# Altium schematic symbol library analogmushroom.SchLib: 107 symbols (part 1 of 2)
Pins are listed as number, name and electrical type; pins without a type are passive.

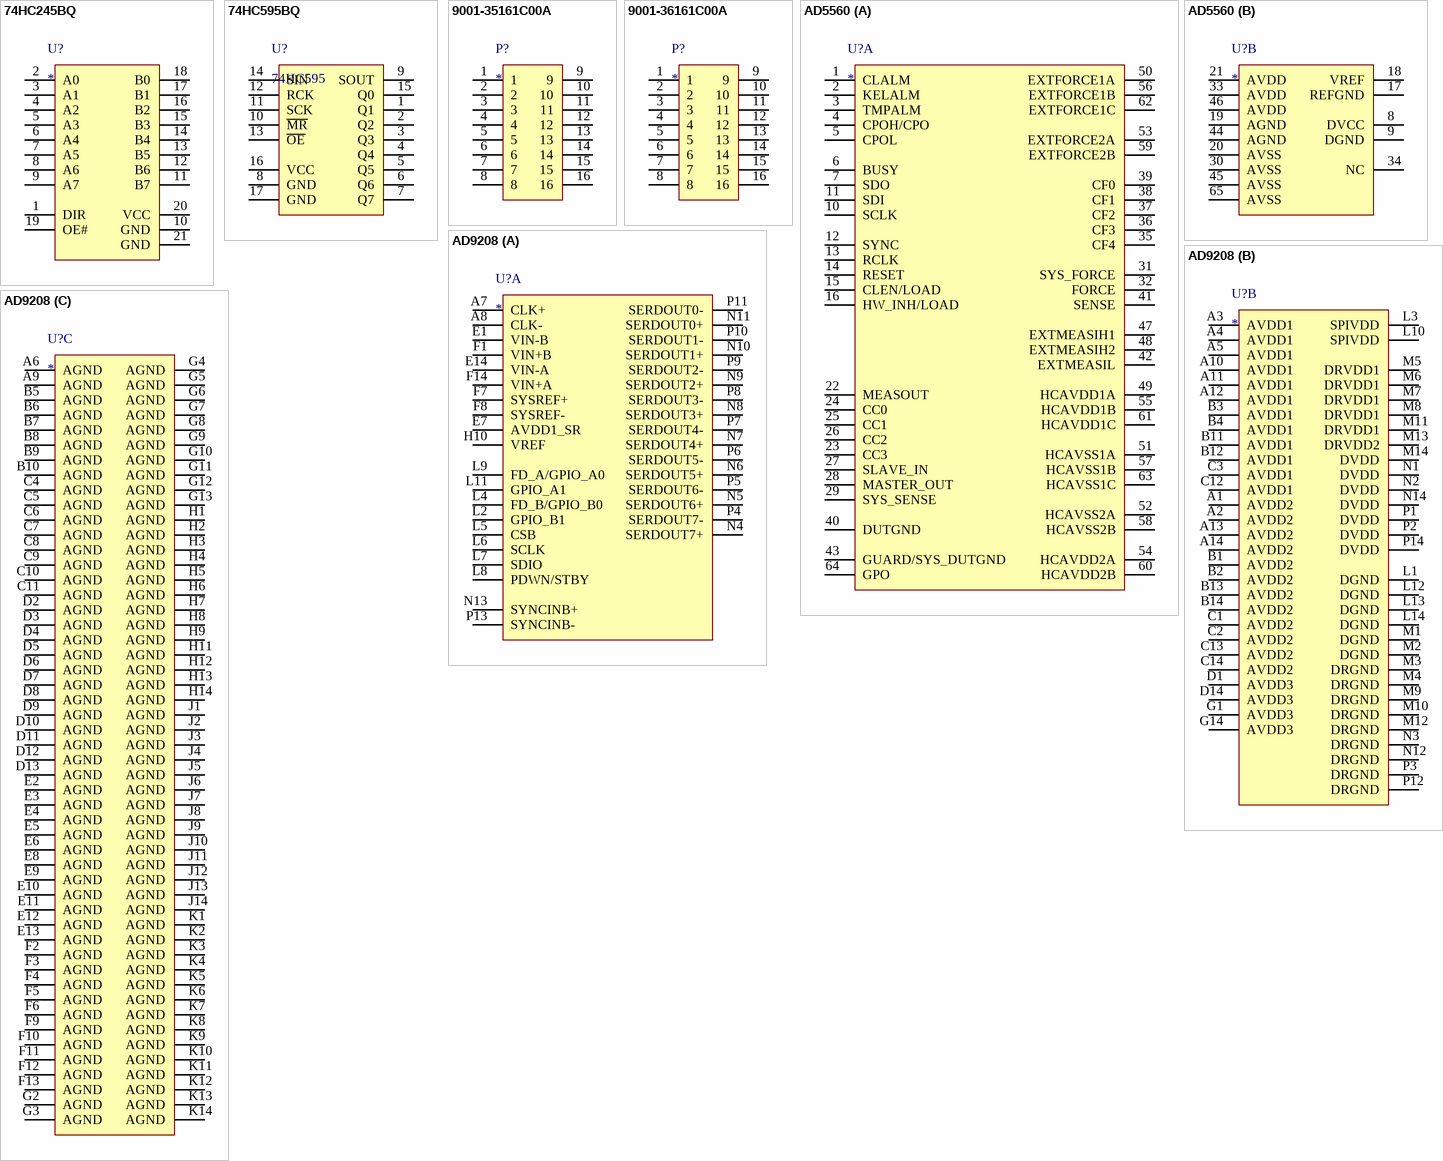
[diagram p0: symbols 74HC245BQ to AD9208]

## 74HC245BQ
designator U?
三态总线收发器
footprint QFN2.5x4.5-20 (QFN, 20-Leads, Body 2.50x4.50mm, Pitch 0.50mm, Thermal Pad 1.00x3.00mm, IPC Medium Density)
pins: 1 DIR, 2 A0, 3 A1, 4 A2, 5 A3, 6 A4, 7 A5, 8 A6, 9 A7, 10 GND, 11 B7, 12 B6, 13 B5, 14 B4, 15 B3, 16 B2, 17 B1, 18 B0, 19 OE#, 20 VCC, 21 GND

## 74HC595BQ
designator U?, comment 74HC595
8位移位寄存器; 学?: www.ooocke.com
footprint QFN2.5x3.5-16 (QFN, 16-Leads, Body 2.50x3.50mm, Pitch 0.50mm, Thermal Pad 1.00x2.00mm, IPC Medium Density)
pins: 1 Q1, 2 Q2, 3 Q3, 4 Q4, 5 Q5, 6 Q6, 7 Q7, 8 GND, 9 SOUT, 10 ~{MR}, 11 SCK, 12 RCK, 13 ~{OE}, 14 SIN, 15 Q0, 16 VCC, 17 GND

## 9001-35161C00A
designator P?
2x8pin 2.54mm 弯插公座
footprint 9001-35161C00A (Footprint not found)
pins: 1, 2, 3, 4, 5, 6, 7, 8, 9, 10, 11, 12, 13, 14, 15, 16

## 9001-36161C00A
designator P?
2x8pin 2.54mm 直插母座
footprint 9001-36161C00A (Footprint not found)
pins: 1, 2, 3, 4, 5, 6, 7, 8, 9, 10, 11, 12, 13, 14, 15, 16

## AD5560
designator U?
footprint TQFP64 10x10_L (64脚，体宽：10x10mm, 脚距：0.5mm)
footprint TQFP64 10x10_M (64脚，体宽：10x10mm, 脚距：0.5mm)
footprint TQFP64 10x10_N (64脚，体宽：10x10mm, 脚距：0.5mm)
part A pins: 1 CLALM, 2 KELALM, 3 TMPALM, 4 CPOH/CPO, 5 CPOL, 6 BUSY, 7 SDO, 10 SCLK, 11 SDI, 12 SYNC, 13 RCLK, 14 RESET, 15 CLEN/LOAD, 16 HW_INH/LOAD, 22 MEASOUT, 23 CC3, 24 CC0, 25 CC1, 26 CC2, 27 SLAVE_IN, 28 MASTER_OUT, 29 SYS_SENSE, 31 SYS_FORCE, 32 FORCE, 35 CF4, 36 CF3, 37 CF2, 38 CF1, 39 CF0, 40 DUTGND, 41 SENSE, 42 EXTMEASIL, 43 GUARD/SYS_DUTGND, 47 EXTMEASIH1, 48 EXTMEASIH2, 49 HCAVDD1A, 50 EXTFORCE1A, 51 HCAVSS1A, 52 HCAVSS2A, 53 EXTFORCE2A, 54 HCAVDD2A, 55 HCAVDD1B, 56 EXTFORCE1B, 57 HCAVSS1B, 58 HCAVSS2B, 59 EXTFORCE2B, 60 HCAVDD2B, 61 HCAVDD1C, 62 EXTFORCE1C, 63 HCAVSS1C, 64 GPO
part B pins: 8 DVCC, 9 DGND, 17 REFGND, 18 VREF, 19 AGND, 20 AVSS, 21 AVDD, 30 AVSS, 33 AVDD, 34 NC, 44 AGND, 45 AVSS, 46 AVDD, 65 AVSS

## AD9208
designator U?
14-Bit, 3 GSPS, JESD204B, / Dual Analog-to-Digital Converter
footprint BGA12X12-192 (BGA, 196-Leads, Body 12.00x12.00mmx1.53mm, Pitch 0.80mm)
part A pins: A7 CLK+, A8 CLK-, E1 VIN-B, E7 AVDD1_SR, E14 VIN-A, F1 VIN+B, F7 SYSREF+, F8 SYSREF-, F14 VIN+A, H10 VREF, L2 GPIO_B1, L4 FD_B/GPIO_B0, L5 CSB, L6 SCLK, L7 SDIO, L8 PDWN/STBY, L9 FD_A/GPIO_A0, L11 GPIO_A1, N4 SERDOUT7+, N5 SERDOUT6+, N6 SERDOUT5+, N7 SERDOUT4+, N8 SERDOUT3+, N9 SERDOUT2+, N10 SERDOUT1+, N11 SERDOUT0+, N13 SYNCINB+, P4 SERDOUT7-, P5 SERDOUT6-, P6 SERDOUT5-, P7 SERDOUT4-, P8 SERDOUT3-, P9 SERDOUT2-, P10 SERDOUT1-, P11 SERDOUT0-, P13 SYNCINB-
part B pins: A1 AVDD2, A2 AVDD2, A3 AVDD1, A4 AVDD1, A5 AVDD1, A10 AVDD1, A11 AVDD1, A12 AVDD1, A13 AVDD2, A14 AVDD2, B1 AVDD2, B2 AVDD2, B3 AVDD1, B4 AVDD1, B11 AVDD1, B12 AVDD1, B13 AVDD2, B14 AVDD2, C1 AVDD2, C2 AVDD2, C3 AVDD1, C12 AVDD1, C13 AVDD2, C14 AVDD2, D1 AVDD3, D14 AVDD3, G1 AVDD3, G14 AVDD3, L1 DGND, L3 SPIVDD, L10 SPIVDD, L12 DGND, L13 DGND, L14 DGND, M1 DGND, M2 DGND, M3 DRGND, M4 DRGND, M5 DRVDD1, M6 DRVDD1, M7 DRVDD1, M8 DRVDD1, M9 DRGND, M10 DRGND, M11 DRVDD1, M12 DRGND, M13 DRVDD2, M14 DVDD, N1 DVDD, N2 DVDD, N3 DRGND, N12 DRGND, N14 DVDD, P1 DVDD, P2 DVDD, P3 DRGND, P12 DRGND, P14 DVDD
part C pins: A6 AGND, A9 AGND, B5 AGND, B6 AGND, B7 AGND, B8 AGND, B9 AGND, B10 AGND, C4 AGND, C5 AGND, C6 AGND, C7 AGND, C8 AGND, C9 AGND, C10 AGND, C11 AGND, D2 AGND, D3 AGND, D4 AGND, D5 AGND, D6 AGND, D7 AGND, D8 AGND, D9 AGND, D10 AGND, D11 AGND, D12 AGND, D13 AGND, E2 AGND, E3 AGND, E4 AGND, E5 AGND, E6 AGND, E8 AGND, E9 AGND, E10 AGND, E11 AGND, E12 AGND, E13 AGND, F2 AGND, F3 AGND, F4 AGND, F5 AGND, F6 AGND, F9 AGND, F10 AGND, F11 AGND, F12 AGND, F13 AGND, G2 AGND, G3 AGND, G4 AGND, G5 AGND, G6 AGND, G7 AGND, G8 AGND, G9 AGND, G10 AGND, G11 AGND, G12 AGND, G13 AGND, H1 AGND, H2 AGND, H3 AGND, H4 AGND, H5 AGND, H6 AGND, H7 AGND, H8 AGND, H9 AGND, H11 AGND, H12 AGND, H13 AGND, H14 AGND, J1 AGND, J2 AGND, J3 AGND, J4 AGND, J5 AGND, J6 AGND, J7 AGND, J8 AGND, J9 AGND, J10 AGND, J11 AGND, J12 AGND, J13 AGND, J14 AGND, K1 AGND, K2 AGND, K3 AGND, K4 AGND, K5 AGND, K6 AGND, K7 AGND, K8 AGND, K9 AGND, K10 AGND, K11 AGND, K12 AGND, K13 AGND, K14 AGND

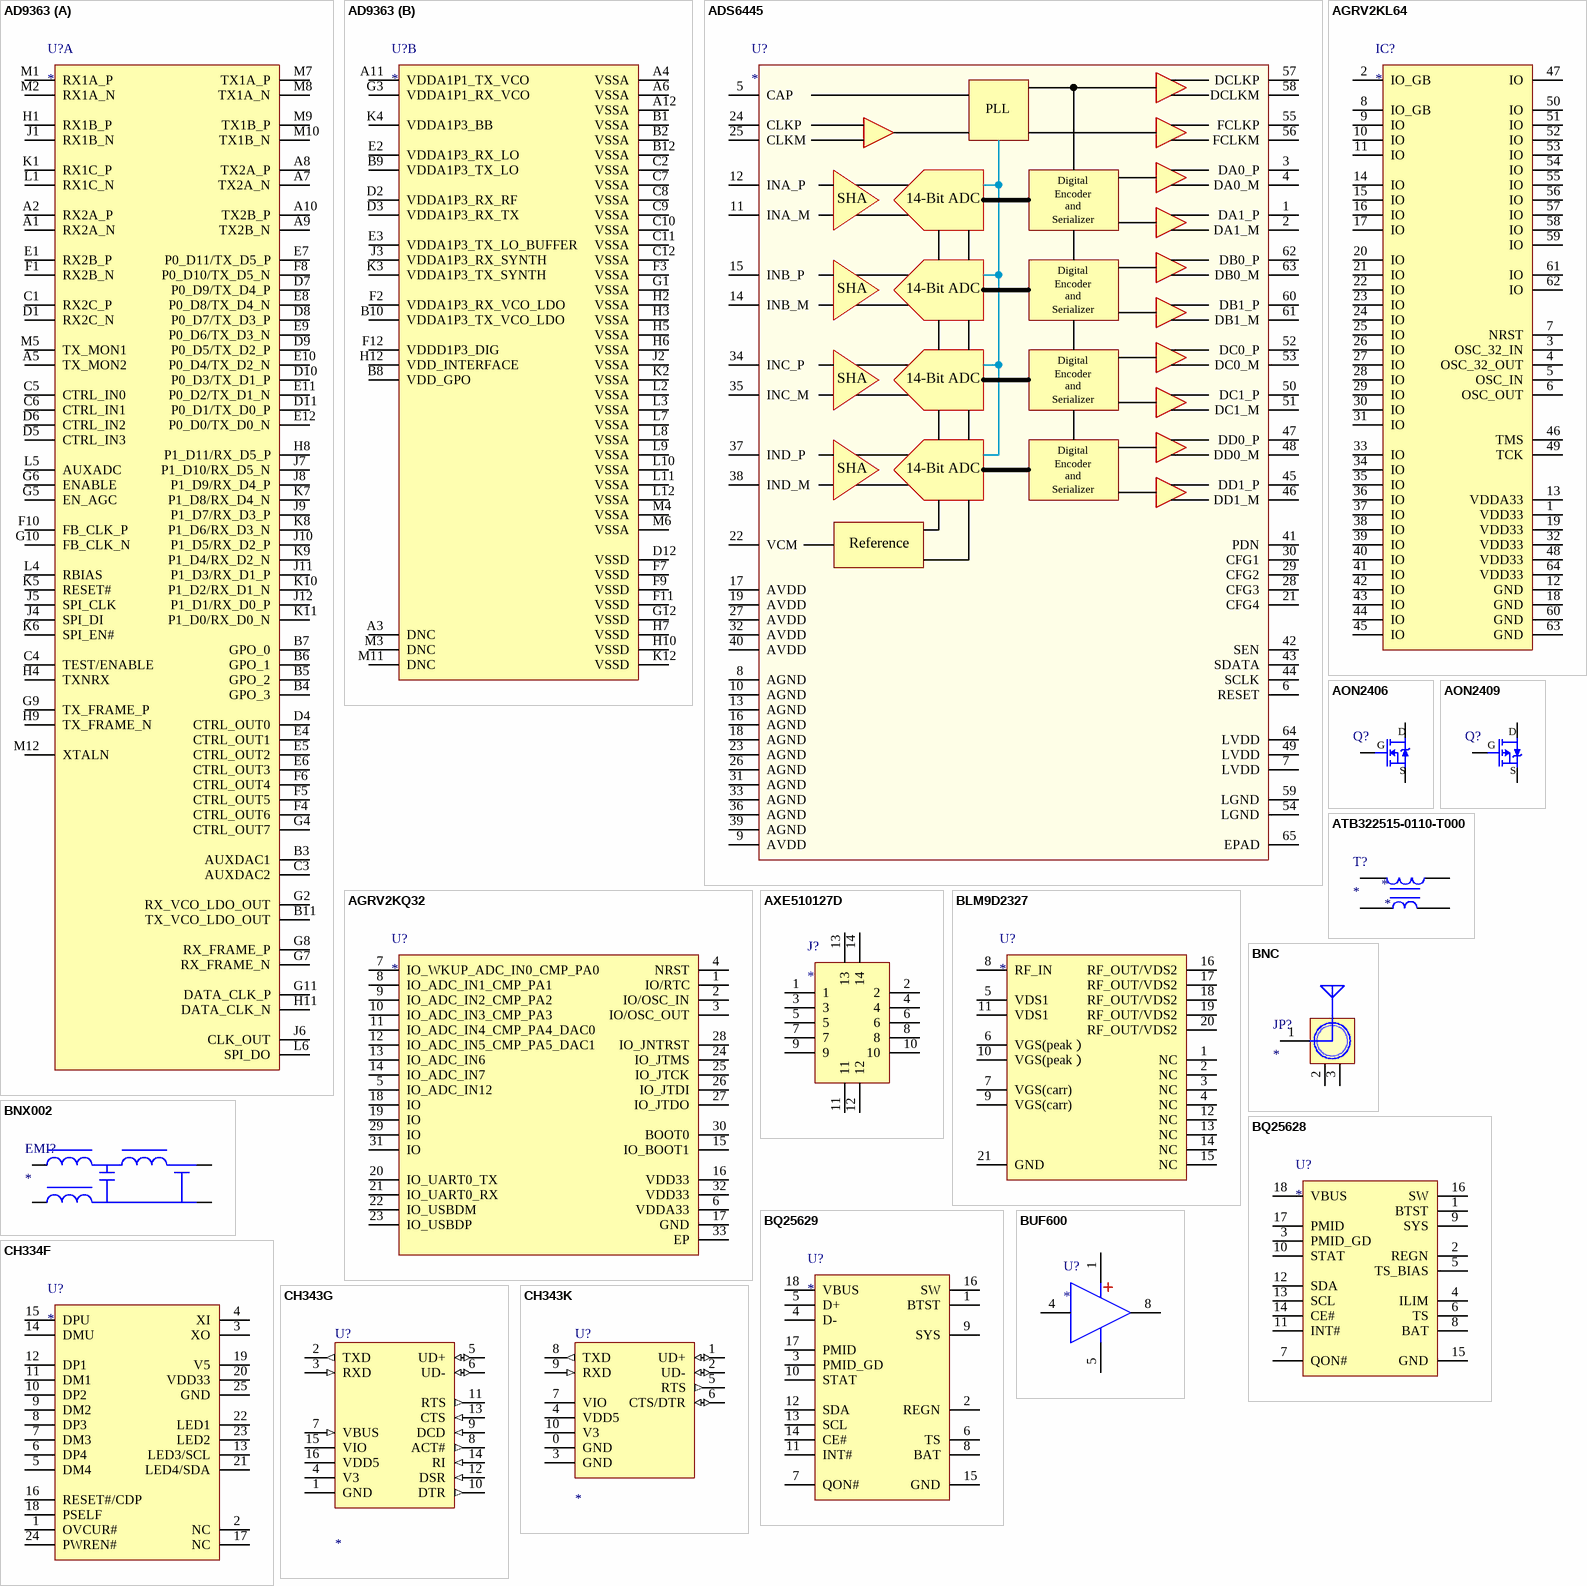
[diagram p1: symbols AD9363 to CH343K]

## AD9363
designator U?
footprint BGA10x10-144 (BGA, 144-Leads, Body 10.00x10.00mmx1.32mm, Pitch 0.80mm)
part A pins: A1 RX2A_N, A2 RX2A_P, A5 TX_MON2, A7 TX2A_N, A8 TX2A_P, A9 TX2B_N, A10 TX2B_P, B3 AUXDAC1, B4 GPO_3, B5 GPO_2, B6 GPO_1, B7 GPO_0, B11 TX_VCO_LDO_OUT, C1 RX2C_P, C3 AUXDAC2, C4 TEST/ENABLE, C5 CTRL_IN0, C6 CTRL_IN1, D1 RX2C_N, D4 CTRL_OUT0, D5 CTRL_IN3, D6 CTRL_IN2, D7 P0_D9/TX_D4_P, D8 P0_D7/TX_D3_P, D9 P0_D5/TX_D2_P, D10 P0_D3/TX_D1_P, D11 P0_D1/TX_D0_P, E1 RX2B_P, E4 CTRL_OUT1, E5 CTRL_OUT2, E6 CTRL_OUT3, E7 P0_D11/TX_D5_P, E8 P0_D8/TX_D4_N, E9 P0_D6/TX_D3_N, E10 P0_D4/TX_D2_N, E11 P0_D2/TX_D1_N, E12 P0_D0/TX_D0_N, F1 RX2B_N, F4 CTRL_OUT6, F5 CTRL_OUT5, F6 CTRL_OUT4, F8 P0_D10/TX_D5_N, F10 FB_CLK_P, G2 RX_VCO_LDO_OUT, G4 CTRL_OUT7, G5 EN_AGC, G6 ENABLE, G7 RX_FRAME_N, G8 RX_FRAME_P, G9 TX_FRAME_P, G10 FB_CLK_N, G11 DATA_CLK_P, H1 RX1B_P, H4 TXNRX, H8 P1_D11/RX_D5_P, H9 TX_FRAME_N, H11 DATA_CLK_N, J1 RX1B_N, J4 SPI_DI, J5 SPI_CLK, J6 CLK_OUT, J7 P1_D10/RX_D5_N, J8 P1_D9/RX_D4_P, J9 P1_D7/RX_D3_P, J10 P1_D5/RX_D2_P, J11 P1_D3/RX_D1_P, J12 P1_D1/RX_D0_P, K1 RX1C_P, K5 RESET#, K6 SPI_EN#, K7 P1_D8/RX_D4_N, K8 P1_D6/RX_D3_N, K9 P1_D4/RX_D2_N, K10 P1_D2/RX_D1_N, K11 P1_D0/RX_D0_N, L1 RX1C_N, L4 RBIAS, L5 AUXADC, L6 SPI_DO, M1 RX1A_P, M2 RX1A_N, M5 TX_MON1, M7 TX1A_P, M8 TX1A_N, M9 TX1B_P, M10 TX1B_N, M12 XTALN
part B pins: A3 DNC, A4 VSSA, A6 VSSA, A11 VDDA1P1_TX_VCO, A12 VSSA, B1 VSSA, B2 VSSA, B8 VDD_GPO, B9 VDDA1P3_TX_LO, B10 VDDA1P3_TX_VCO_LDO, B12 VSSA, C2 VSSA, C7 VSSA, C8 VSSA, C9 VSSA, C10 VSSA, C11 VSSA, C12 VSSA, D2 VDDA1P3_RX_RF, D3 VDDA1P3_RX_TX, D12 VSSD, E2 VDDA1P3_RX_LO, E3 VDDA1P3_TX_LO_BUFFER, F2 VDDA1P3_RX_VCO_LDO, F3 VSSA, F7 VSSD, F9 VSSD, F11 VSSD, F12 VDDD1P3_DIG, G1 VSSA, G3 VDDA1P1_RX_VCO, G12 VSSD, H2 VSSA, H3 VSSA, H5 VSSA, H6 VSSA, H7 VSSD, H10 VSSD, H12 VDD_INTERFACE, J2 VSSA, J3 VDDA1P3_RX_SYNTH, K2 VSSA, K3 VDDA1P3_TX_SYNTH, K4 VDDA1P3_BB, K12 VSSD, L2 VSSA, L3 VSSA, L7 VSSA, L8 VSSA, L9 VSSA, L10 VSSA, L11 VSSA, L12 VSSA, M3 DNC, M4 VSSA, M6 VSSA, M11 DNC

## ADS6445
designator U?
footprint QFN9x9-64 (QFN, 64-Leads, Body 9.00x9.00mm, Pitch 0.50mm, Thermal Pad 7.25x7.25mm, IPC Medium Density)
pins: 1 DA1_P, 2 DA1_M, 3 DA0_P, 4 DA0_M, 5 CAP, 6 RESET, 7 LVDD, 8 AGND, 9 AVDD, 10 AGND, 11 INA_M, 12 INA_P, 13 AGND, 14 INB_M, 15 INB_P, 16 AGND, 17 AVDD, 18 AGND, 19 AVDD, 21 CFG4, 22 VCM, 23 AGND, 24 CLKP, 25 CLKM, 26 AGND, 27 AVDD, 28 CFG3, 29 CFG2, 30 CFG1, 31 AGND, 32 AVDD, 33 AGND, 34 INC_P, 35 INC_M, 36 AGND, 37 IND_P, 38 IND_M, 39 AGND, 40 AVDD, 41 PDN, 42 SEN, 43 SDATA, 44 SCLK, 45 DD1_P, 46 DD1_M, 47 DD0_P, 48 DD0_M, 49 LVDD, 50 DC1_P, 51 DC1_M, 52 DC0_P, 53 DC0_M, 54 LGND, 55 FCLKP, 56 FCLKM, 57 DCLKP, 58 DCLKM, 59 LGND, 60 DB1_P, 61 DB1_M, 62 DB0_P, 63 DB0_M, 64 LVDD, 65 EPAD
text: PLL; Digital; Encoder; SHA; 14-Bit ADC; and; Serializer; Reference

## AGRV2KL64
designator IC?
footprint LQFP64 10x10_L (64脚，体宽10x10mm，脚距0.5mm)
footprint LQFP64 10x10_M (64脚，体宽10x10mm，脚距0.5mm)
footprint LQFP64 10x10_N (64脚，体宽10x10mm，脚距0.5mm)
pins: 1 VDD33, 2 IO_GB, 3 OSC_32_IN, 4 OSC_32_OUT, 5 OSC_IN, 6 OSC_OUT, 7 NRST, 8 IO_GB, 9 IO, 10 IO, 11 IO, 12 GND, 13 VDDA33, 14 IO, 15 IO, 16 IO, 17 IO, 18 GND, 19 VDD33, 20 IO, 21 IO, 22 IO, 23 IO, 24 IO, 25 IO, 26 IO, 27 IO, 28 IO, 29 IO, 30 IO, 31 IO, 32 VDD33, 33 IO, 34 IO, 35 IO, 36 IO, 37 IO, 38 IO, 39 IO, 40 IO, 41 IO, 42 IO, 43 IO, 44 IO, 45 IO, 46 TMS, 47 IO, 48 VDD33, 49 TCK, 50 IO, 51 IO, 52 IO, 53 IO, 54 IO, 55 IO, 56 IO, 57 IO, 58 IO, 59 IO, 60 GND, 61 IO, 62 IO, 63 GND, 64 VDD33

## AGRV2KQ32
designator U?
footprint QFN4x4-32 (Footprint not found)
pins: 1 IO/RTC, 2 IO/OSC_IN, 3 IO/OSC_OUT, 4 NRST, 5 IO_ADC_IN12, 6 VDDA33, 7 IO_WKUP_ADC_IN0_CMP_PA0, 8 IO_ADC_IN1_CMP_PA1, 9 IO_ADC_IN2_CMP_PA2, 10 IO_ADC_IN3_CMP_PA3, 11 IO_ADC_IN4_CMP_PA4_DAC0, 12 IO_ADC_IN5_CMP_PA5_DAC1, 13 IO_ADC_IN6, 14 IO_ADC_IN7, 15 IO_BOOT1, 16 VDD33, 17 GND, 18 IO, 19 IO, 20 IO_UART0_TX, 21 IO_UART0_RX, 22 IO_USBDM, 23 IO_USBDP, 24 IO_JTMS, 25 IO_JTCK, 26 IO_JTDI, 27 IO_JTDO, 28 IO_JNTRST, 29 IO, 30 BOOT0, 31 IO, 32 VDD33, 33 EP

## AON2406
designator Q?  (value not drawn)
footprint DFN2x2B-8 (Footprint not found)
pins: 1 D, 2 D, 3 G, 4 S, 5 D, 6 D, 7 D, 8 S

## AON2409
designator Q?  (value not drawn)
footprint DFN2x2B-8 (Footprint not found)
pins: 1 D, 2 D, 3 G, 4 S, 5 D, 6 D, 7 D, 8 S

## ATB322515-0110-T000
designator T?
Step-up transformers / Wound SMD
footprint ATB322515-0110-T000 (Footprint not found)
pins: 1, 2, 3, 4

## AXE510127D
designator J?
footprint AXE510127D (Footprint not found)
pins: 1, 2, 3, 4, 5, 6, 7, 8, 9, 10, 11, 12, 13, 14

## BLM9D2327
designator U?
LDMOS 2-stage integrated Doherty MMIC
footprint QFN8x8-20 (Footprint not found)
pins: 1 NC, 2 NC, 3 NC, 4 NC, 5 VDS1, 6 VGS(peak）, 7 VGS(carr), 8 RF_IN, 9 VGS(carr), 10 VGS(peak）, 11 VDS1, 12 NC, 13 NC, 14 NC, 15 NC, 16 RF_OUT/VDS2, 17 RF_OUT/VDS2, 18 RF_OUT/VDS2, 19 RF_OUT/VDS2, 20 RF_OUT/VDS2, 21 GND

## BNC
designator JP?
footprint BNC-KWE
pins: 1 ANT, 2 GND, 3 GND

## BNX002
designator EMI?
EMI滤波器
footprint BNX-002 (Footprint not found)
pins: 1 B, 2 CB, 3 PSG, 4 CG

## BQ25628
designator U?
具有升压模式和 ADC 的 I²C 控制型 18V 最大输入、2A 单节电池充电器
footprint QFN2.5x3-18 (Footprint not found)
pins: 1 BTST, 2 REGN, 3 PMID_GD, 4 ILIM, 5 TS_BIAS, 6 TS, 7 QON#, 8 BAT, 9 SYS, 10 STAT, 11 INT#, 12 SDA, 13 SCL, 14 CE#, 15 GND, 16 SW, 17 PMID, 18 VBUS

## BQ25629
designator U?
具有升压模式和 ADC 的 I²C 控制型 18V 最大输入、2A 单节电池充电器
footprint QFN2.5x3-18 (Footprint not found)
pins: 1 BTST, 2 REGN, 3 PMID_GD, 4 D-, 5 D+, 6 TS, 7 QON#, 8 BAT, 9 SYS, 10 STAT, 11 INT#, 12 SDA, 13 SCL, 14 CE#, 15 GND, 16 SW, 17 PMID, 18 VBUS

## BUF600
designator U?
footprint SOP8_L (4*5*1.8mm（长宽高）)
footprint SOP8_M (5*6*1.8mm（长宽高）)
footprint SOP8_N (5*6*1.8mm（长宽高）)
pins: 1 V+ (power), 4 IN-, 5 V- (power), 8 OUT

## CH334F
designator U?
4 端口 USB 2.0 HUB 控制器芯片
footprint QFN24 4X4_L (24脚，长x宽x高：4x4x1mm，脚距：0.5mm)
footprint QFN24 4X4_M (24脚，长x宽x高：4x4x1mm，脚距：0.5mm)
footprint QFN24 4X4_N (24脚，长x宽x高：4x4x1mm，脚距：0.5mm)
pins: 1 OVCUR#, 2 NC, 3 XO, 4 XI, 5 DM4, 6 DP4, 7 DM3, 8 DP3, 9 DM2, 10 DP2, 11 DM1, 12 DP1, 13 LED3/SCL, 14 DMU, 15 DPU, 16 RESET#/CDP, 17 NC, 18 PSELF, 19 V5, 20 VDD33, 21 LED4/SDA, 22 LED1, 23 LED2, 24 PWREN#, 25 GND

## CH343G
designator U?
USB to high speed enhanced TTL Serial / UART
footprint SOP16_L (10.3*6.2*1.8mm（长宽高）)
footprint DIP16-300 (19.3*7.6*3.8(长宽高）)
footprint SOP16_M (10.3*6.2*1.8mm（长宽高）)
footprint SOP16_N (10.3*6.2*1.8mm（长宽高）)
pins: 1 GND (power), 2 TXD (out), 3 RXD (in), 4 V3 (power), 5 UD+ (io), 6 UD- (io), 7 VBUS (in), 8 ACT# (out), 9 DCD (in), 10 DTR (out), 11 RTS (out), 12 DSR (in), 13 CTS (in), 14 RI (in), 15 VIO (power), 16 VDD5 (power)

## CH343K
designator U?
USB to high speed enhanced TTL Serial / UART
footprint ESSOP-10 (Footprint not found)
pins: 0 GND (power), 1 UD+ (io), 2 UD- (io), 3 GND (power), 4 VDD5 (power), 5 RTS (out), 6 CTS/DTR (io), 7 VIO (power), 8 TXD (out), 9 RXD (in), 10 V3 (power)

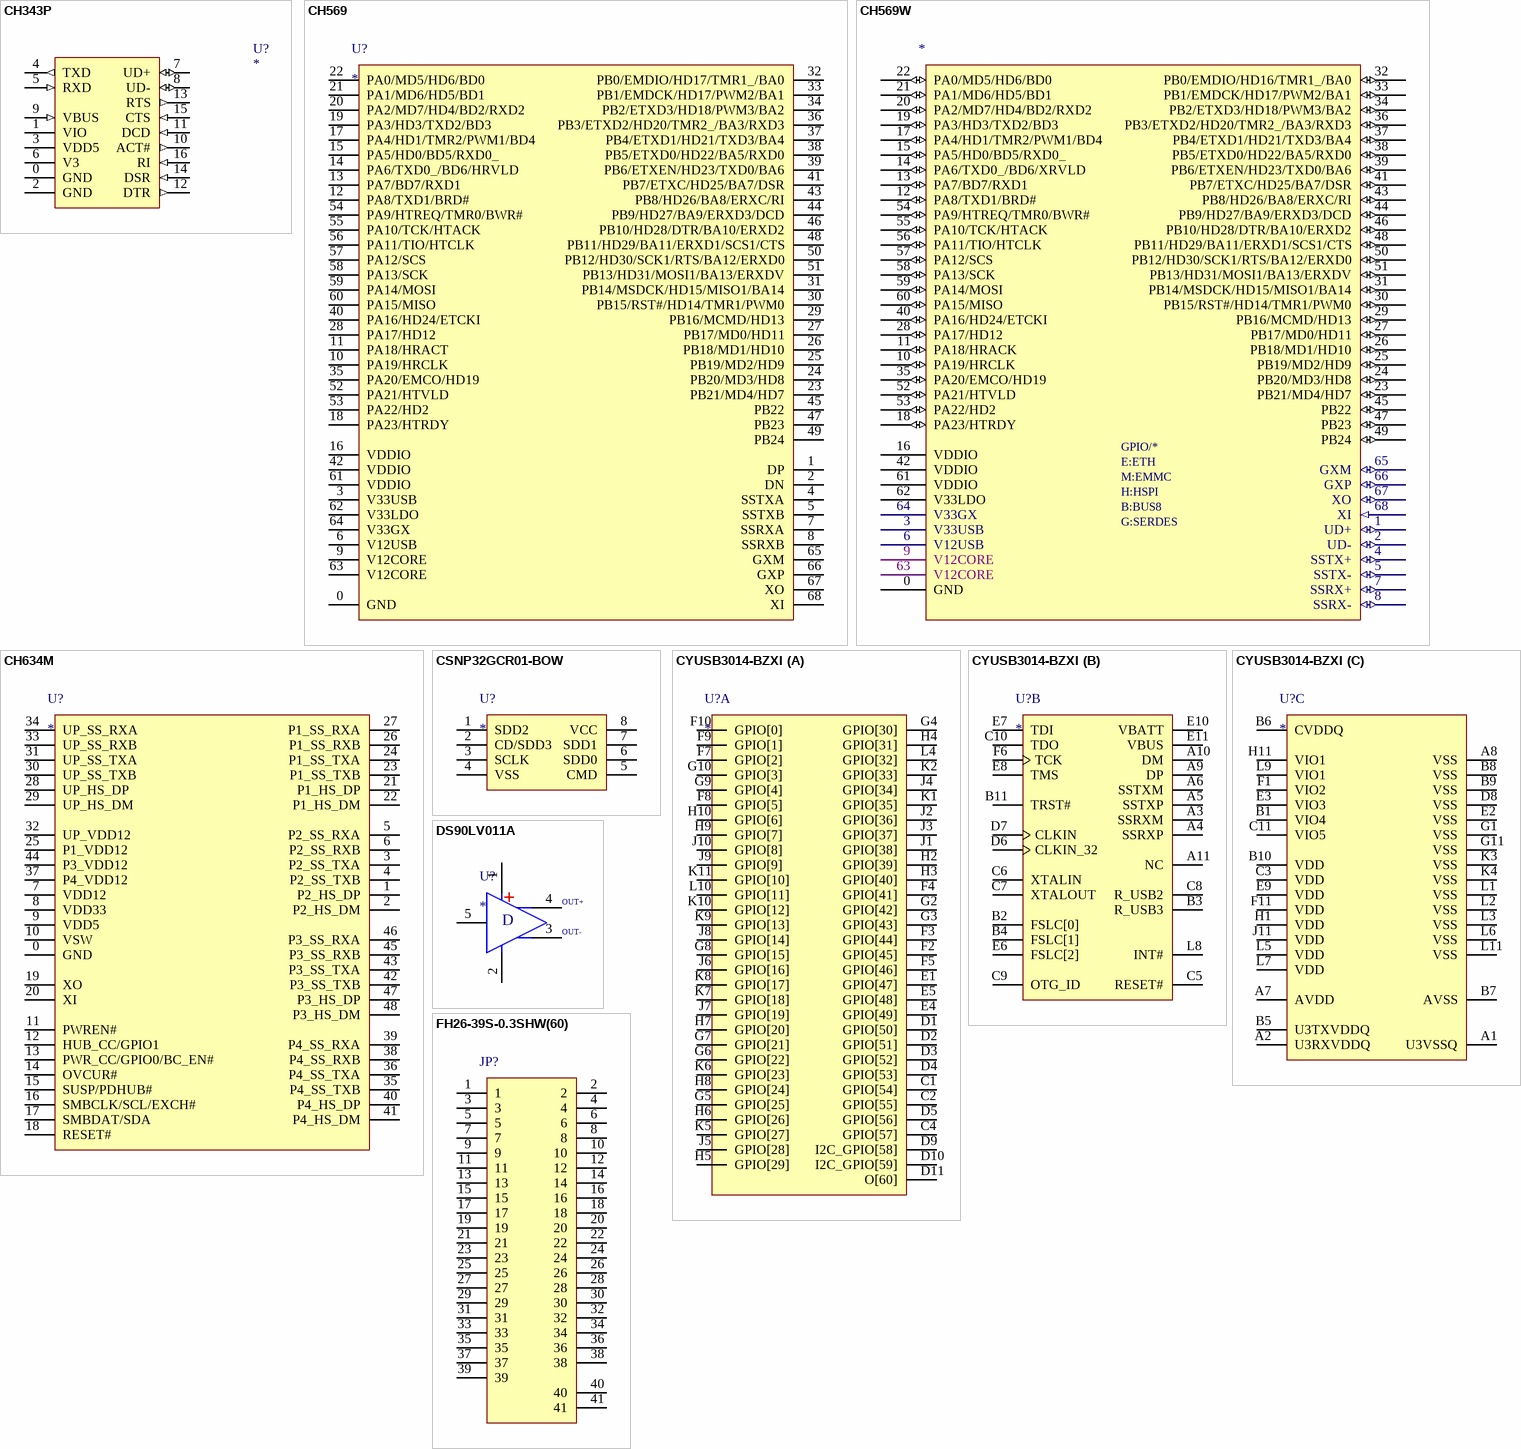
[diagram p2: symbols CH343P to FH26-39S-0.3SHW(60)]

## CH343P
designator U?
USB to high speed enhanced TTL Serial / UART
footprint QFN3x3-16 (QFN, 16-Leads, Body 3.00x3.00mm, Pitch 0.50mm, Thermal Pad 1.70x1.70mm, IPC Medium Density)
pins: 0 GND (power), 1 VIO (power), 2 GND (power), 3 VDD5 (power), 4 TXD (out), 5 RXD (in), 6 V3 (power), 7 UD+ (io), 8 UD- (io), 9 VBUS (in), 10 ACT# (out), 11 DCD (in), 12 DTR (out), 13 RTS (out), 14 DSR (in), 15 CTS (in), 16 RI (in)

## CH569
designator U?
footprint QFN68 8x8_L (68脚，长x宽x高：8x8x0.85mm，脚距：0.4mm)
footprint QFN68 8x8_M (68脚，长x宽x高：8x8x0.85mm，脚距：0.4mm)
footprint QFN68 8x8_N (68脚，长x宽x高：8x8x0.85mm，脚距：0.4mm)
pins: 0 GND, 1 DP, 2 DN, 3 V33USB, 4 SSTXA, 5 SSTXB, 6 V12USB, 7 SSRXA, 8 SSRXB, 9 V12CORE, 10 PA19/HRCLK, 11 PA18/HRACT, 12 PA8/TXD1/BRD#, 13 PA7/BD7/RXD1, 14 PA6/TXD0_/BD6/HRVLD, 15 PA5/HD0/BD5/RXD0_, 16 VDDIO, 17 PA4/HD1/TMR2/PWM1/BD4, 18 PA23/HTRDY, 19 PA3/HD3/TXD2/BD3, 20 PA2/MD7/HD4/BD2/RXD2, 21 PA1/MD6/HD5/BD1, 22 PA0/MD5/HD6/BD0, 23 PB21/MD4/HD7, 24 PB20/MD3/HD8, 25 PB19/MD2/HD9, 26 PB18/MD1/HD10, 27 PB17/MD0/HD11, 28 PA17/HD12, 29 PB16/MCMD/HD13, 30 PB15/RST#/HD14/TMR1/PWM0, 31 PB14/MSDCK/HD15/MISO1/BA14, 32 PB0/EMDIO/HD17/TMR1_/BA0, 33 PB1/EMDCK/HD17/PWM2/BA1, 34 PB2/ETXD3/HD18/PWM3/BA2, 35 PA20/EMCO/HD19, 36 PB3/ETXD2/HD20/TMR2_/BA3/RXD3, 37 PB4/ETXD1/HD21/TXD3/BA4, 38 PB5/ETXD0/HD22/BA5/RXD0, 39 PB6/ETXEN/HD23/TXD0/BA6, 40 PA16/HD24/ETCKI, 41 PB7/ETXC/HD25/BA7/DSR, 42 VDDIO, 43 PB8/HD26/BA8/ERXC/RI, 44 PB9/HD27/BA9/ERXD3/DCD, 45 PB22, 46 PB10/HD28/DTR/BA10/ERXD2, 47 PB23, 48 PB11/HD29/BA11/ERXD1/SCS1/CTS, 49 PB24, 50 PB12/HD30/SCK1/RTS/BA12/ERXD0, 51 PB13/HD31/MOSI1/BA13/ERXDV, 52 PA21/HTVLD, 53 PA22/HD2, 54 PA9/HTREQ/TMR0/BWR#, 55 PA10/TCK/HTACK, 56 PA11/TIO/HTCLK, 57 PA12/SCS, 58 PA13/SCK, 59 PA14/MOSI, 60 PA15/MISO, 61 VDDIO, 62 V33LDO, 63 V12CORE, 64 V33GX, 65 GXM, 66 GXP, 67 XO, 68 XI

## CH569W
designator *  (value not drawn)
footprint QFN8x8-68
pins: 0 GND (power), 1 UD+ (io), 2 UD- (io), 3 V33USB (power), 4 SSTX+ (io), 5 SSTX- (io), 6 V12USB (power), 7 SSRX+ (io), 8 SSRX- (io), 9 V12CORE (power), 10 PA19/HRCLK (io), 11 PA18/HRACK (io), 12 PA8/TXD1/BRD# (io), 13 PA7/BD7/RXD1 (io), 14 PA6/TXD0_/BD6/XRVLD (io), 15 PA5/HD0/BD5/RXD0_ (io), 16 VDDIO (power), 17 PA4/HD1/TMR2/PWM1/BD4 (io), 18 PA23/HTRDY (io), 19 PA3/HD3/TXD2/BD3 (io), 20 PA2/MD7/HD4/BD2/RXD2 (io), 21 PA1/MD6/HD5/BD1 (io), 22 PA0/MD5/HD6/BD0 (io), 23 PB21/MD4/HD7 (io), 24 PB20/MD3/HD8 (io), 25 PB19/MD2/HD9 (io), 26 PB18/MD1/HD10 (io), 27 PB17/MD0/HD11 (io), 28 PA17/HD12 (io), 29 PB16/MCMD/HD13 (io), 30 PB15/RST#/HD14/TMR1/PWM0 (io), 31 PB14/MSDCK/HD15/MISO1/BA14 (io), 32 PB0/EMDIO/HD16/TMR1_/BA0 (io), 33 PB1/EMDCK/HD17/PWM2/BA1 (io), 34 PB2/ETXD3/HD18/PWM3/BA2 (io), 35 PA20/EMCO/HD19 (io), 36 PB3/ETXD2/HD20/TMR2_/BA3/RXD3 (io), 37 PB4/ETXD1/HD21/TXD3/BA4 (io), 38 PB5/ETXD0/HD22/BA5/RXD0 (io), 39 PB6/ETXEN/HD23/TXD0/BA6 (io), 40 PA16/HD24/ETCKI (io), 41 PB7/ETXC/HD25/BA7/DSR (io), 42 VDDIO (power), 43 PB8/HD26/BA8/ERXC/RI (io), 44 PB9/HD27/BA9/ERXD3/DCD (io), 45 PB22 (io), 46 PB10/HD28/DTR/BA10/ERXD2 (io), 47 PB23 (io), 48 PB11/HD29/BA11/ERXD1/SCS1/CTS (io), 49 PB24 (io), 50 PB12/HD30/SCK1/RTS/BA12/ERXD0 (io), 51 PB13/HD31/MOSI1/BA13/ERXDV (io), 52 PA21/HTVLD (io), 53 PA22/HD2 (io), 54 PA9/HTREQ/TMR0/BWR# (io), 55 PA10/TCK/HTACK (io), 56 PA11/TIO/HTCLK (io), 57 PA12/SCS (io), 58 PA13/SCK (io), 59 PA14/MOSI (io), 60 PA15/MISO (io), 61 VDDIO (power), 62 V33LDO (power), 63 V12CORE (power), 64 V33GX (power), 65 GXM (io), 66 GXP (io), 67 XO (io), 68 XI (in)
text: GPIO/*; E:ETH; M:EMMC; H:HSPI; B:BUS8; G:SERDES

## CH634M
designator U?
4 ports USB 3.0 SS hub
footprint QFN5x5-48 (QFN, 48-Leads, Body 5.00x5.00mm, Pitch 0.35mm, Thermal Pad 3.70x3.70mm, IPC High Density)
pins: 0 GND, 1 P2_HS_DP, 2 P2_HS_DM, 3 P2_SS_TXA, 4 P2_SS_TXB, 5 P2_SS_RXA, 6 P2_SS_RXB, 7 VDD12, 8 VDD33, 9 VDD5, 10 VSW, 11 PWREN#, 12 HUB_CC/GPIO1, 13 PWR_CC/GPIO0/BC_EN#, 14 OVCUR#, 15 SUSP/PDHUB#, 16 SMBCLK/SCL/EXCH#, 17 SMBDAT/SDA, 18 RESET#, 19 XO, 20 XI, 21 P1_HS_DP, 22 P1_HS_DM, 23 P1_SS_TXB, 24 P1_SS_TXA, 25 P1_VDD12, 26 P1_SS_RXB, 27 P1_SS_RXA, 28 UP_HS_DP, 29 UP_HS_DM, 30 UP_SS_TXB, 31 UP_SS_TXA, 32 UP_VDD12, 33 UP_SS_RXB, 34 UP_SS_RXA, 35 P4_SS_TXB, 36 P4_SS_TXA, 37 P4_VDD12, 38 P4_SS_RXB, 39 P4_SS_RXA, 40 P4_HS_DP, 41 P4_HS_DM, 42 P3_SS_TXB, 43 P3_SS_TXA, 44 P3_VDD12, 45 P3_SS_RXB, 46 P3_SS_RXA, 47 P3_HS_DP, 48 P3_HS_DM

## CSNP32GCR01-BOW
designator U?
存储容量:1Gbit;时钟频率(fc):50MHz;工作电压:2.7V~3.6V;
footprint LGA6x8-8
pins: 1 SDD2, 2 CD/SDD3, 3 SCLK, 4 VSS, 5 CMD, 6 SDD0, 7 SDD1, 8 VCC

## CYUSB3014-BZXI
designator U?
footprint BGA10X10-121
part A pins: C1 GPIO[54], C2 GPIO[55], C4 GPIO[57], D1 GPIO[50], D2 GPIO[51], D3 GPIO[52], D4 GPIO[53], D5 GPIO[56], D9 I2C_GPIO[58], D10 I2C_GPIO[59], D11 O[60], E1 GPIO[47], E4 GPIO[49], E5 GPIO[48], F2 GPIO[45], F3 GPIO[44], F4 GPIO[41], F5 GPIO[46], F7 GPIO[2], F8 GPIO[5], F9 GPIO[1], F10 GPIO[0], G2 GPIO[42], G3 GPIO[43], G4 GPIO[30], G5 GPIO[25], G6 GPIO[22], G7 GPIO[21], G8 GPIO[15], G9 GPIO[4], G10 GPIO[3], H2 GPIO[39], H3 GPIO[40], H4 GPIO[31], H5 GPIO[29], H6 GPIO[26], H7 GPIO[20], H8 GPIO[24], H9 GPIO[7], H10 GPIO[6], J1 GPIO[38], J2 GPIO[36], J3 GPIO[37], J4 GPIO[34], J5 GPIO[28], J6 GPIO[16], J7 GPIO[19], J8 GPIO[14], J9 GPIO[9], J10 GPIO[8], K1 GPIO[35], K2 GPIO[33], K5 GPIO[27], K6 GPIO[23], K7 GPIO[18], K8 GPIO[17], K9 GPIO[13], K10 GPIO[12], K11 GPIO[10], L4 GPIO[32], L10 GPIO[11]
part B pins: A3 SSRXM, A4 SSRXP, A5 SSTXP, A6 SSTXM, A9 DP, A10 DM, A11 NC, B2 FSLC[0], B3 R_USB3, B4 FSLC[1], B11 TRST#, C5 RESET#, C6 XTALIN, C7 XTALOUT, C8 R_USB2, C9 OTG_ID, C10 TDO, D6 CLKIN_32, D7 CLKIN, E6 FSLC[2], E7 TDI, E8 TMS, E10 VBATT, E11 VBUS, F6 TCK, L8 INT#
part C pins: A1 U3VSSQ, A2 U3RXVDDQ, A7 AVDD, A8 VSS, B1 VIO4, B5 U3TXVDDQ, B6 CVDDQ, B7 AVSS, B8 VSS, B9 VSS, B10 VDD, C3 VDD, C11 VIO5, D8 VSS, E2 VSS, E3 VIO3, E9 VDD, F1 VIO2, F11 VDD, G1 VSS, G11 VSS, H1 VDD, H11 VIO1, J11 VDD, K3 VSS, K4 VSS, L1 VSS, L2 VSS, L3 VSS, L5 VDD, L6 VSS, L7 VDD, L9 VIO1, L11 VSS

## DS90LV011A
designator U?
3V LVDS Single High Speed Differential Driver
footprint SOT23-5L (3x1.6x1.1mm(长宽高))
footprint SOT23-5M (3x1.6x1.1mm(长宽高))
footprint SOT23-5N (3x1.6x1.1mm(长宽高))
pins: 1 V+ (power), 2 V- (power), 3 OUT-, 4 OUT+, 5 IN-
text: D

## FH26-39S-0.3SHW(60)
designator JP?  (value not drawn)
footprint FH26-39S-0.3SHW(60)
pins: 1, 2, 3, 4, 5, 6, 7, 8, 9, 10, 11, 12, 13, 14, 15, 16, 17, 18, 19, 20, 21, 22, 23, 24, 25, 26, 27, 28, 29, 30, 31, 32, 33, 34, 35, 36, 37, 38, 39, 40, 41

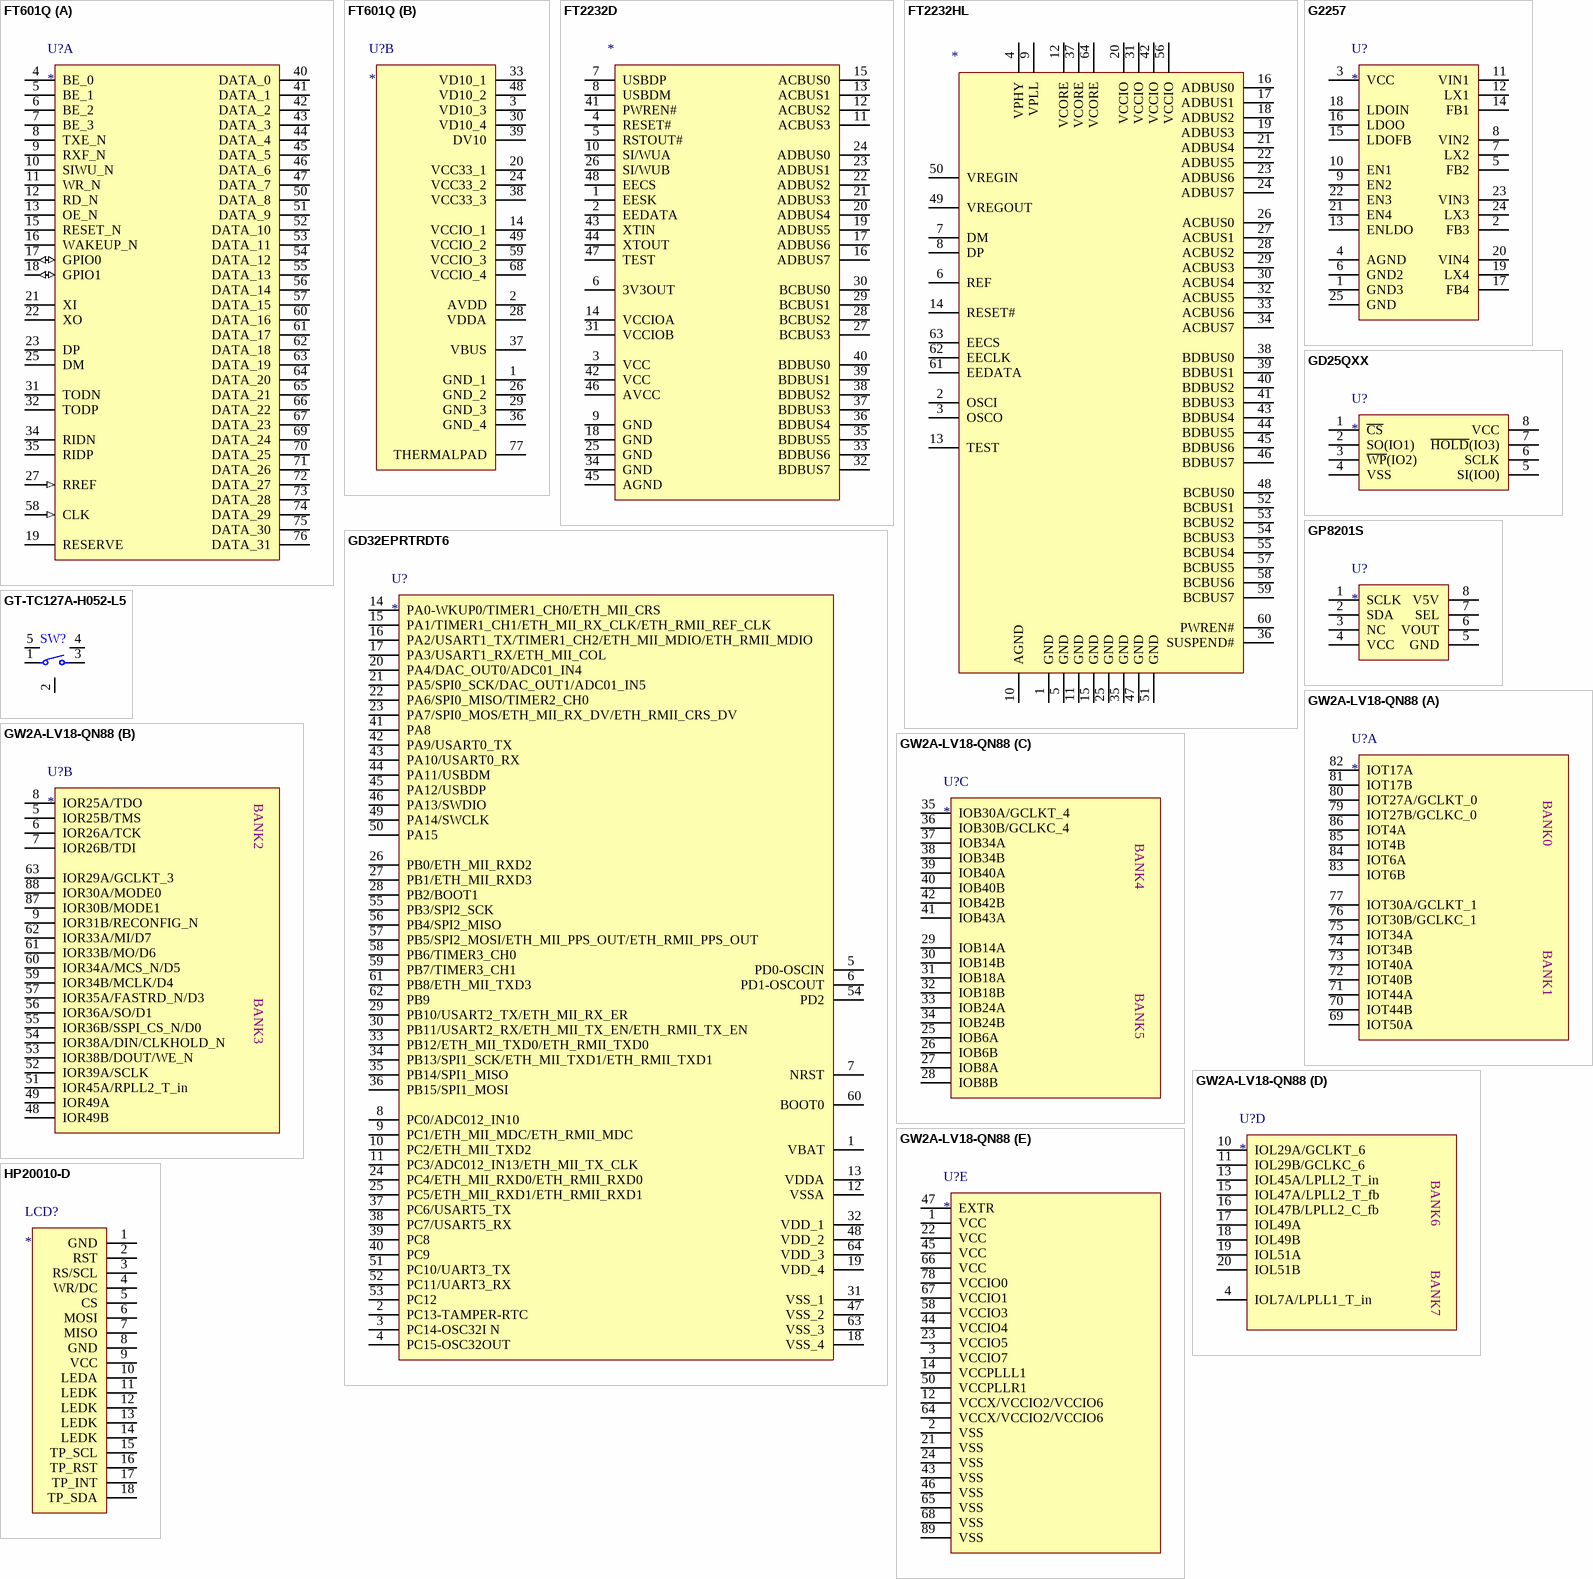
[diagram p3: symbols FT601Q to HP20010-D]

## FT601Q
designator U?
footprint QFN9X9-76 (Footprint not found)
part A pins: 4 BE_0, 5 BE_1, 6 BE_2, 7 BE_3, 8 TXE_N, 9 RXF_N, 10 SIWU_N, 11 WR_N, 12 RD_N, 13 OE_N, 15 RESET_N, 16 WAKEUP_N, 17 GPIO0 (io), 18 GPIO1 (io), 19 RESERVE, 21 XI, 22 XO, 23 DP, 25 DM, 27 RREF (in), 31 TODN, 32 TODP, 34 RIDN, 35 RIDP, 40 DATA_0, 41 DATA_1, 42 DATA_2, 43 DATA_3, 44 DATA_4, 45 DATA_5, 46 DATA_6, 47 DATA_7, 50 DATA_8, 51 DATA_9, 52 DATA_10, 53 DATA_11, 54 DATA_12, 55 DATA_13, 56 DATA_14, 57 DATA_15, 58 CLK (in), 60 DATA_16, 61 DATA_17, 62 DATA_18, 63 DATA_19, 64 DATA_20, 65 DATA_21, 66 DATA_22, 67 DATA_23, 69 DATA_24, 70 DATA_25, 71 DATA_26, 72 DATA_27, 73 DATA_28, 74 DATA_29, 75 DATA_30, 76 DATA_31
part B pins: 1 GND_1 (power), 2 AVDD (power), 3 VD10_3, 14 VCCIO_1 (power), 20 VCC33_1 (power), 24 VCC33_2 (power), 26 GND_2 (power), 28 VDDA (power), 29 GND_3 (power), 30 VD10_4, 33 VD10_1, 36 GND_4 (power), 37 VBUS, 38 VCC33_3 (power), 39 DV10, 48 VD10_2, 49 VCCIO_2 (power), 59 VCCIO_3 (power), 68 VCCIO_4 (power), 77 THERMALPAD

## FT2232D
designator *  (value not drawn)
footprint LQFP48 7X7_L (48脚，体宽7x7mm，脚距0.5mm)
footprint LQFP48 7X7_M (48脚，体宽7x7mm，脚距0.5mm)
footprint LQFP48 7X7_N (48脚，体宽7x7mm，脚距0.5mm)
pins: 1 EESK, 2 EEDATA, 3 VCC, 4 RESET#, 5 RSTOUT#, 6 3V3OUT, 7 USBDP, 8 USBDM, 9 GND, 10 SI/WUA, 11 ACBUS3, 12 ACBUS2, 13 ACBUS1, 14 VCCIOA, 15 ACBUS0, 16 ADBUS7, 17 ADBUS6, 18 GND, 19 ADBUS5, 20 ADBUS4, 21 ADBUS3, 22 ADBUS2, 23 ADBUS1, 24 ADBUS0, 25 GND, 26 SI/WUB, 27 BCBUS3, 28 BCBUS2, 29 BCBUS1, 30 BCBUS0, 31 VCCIOB, 32 BDBUS7, 33 BDBUS6, 34 GND, 35 BDBUS5, 36 BDBUS4, 37 BDBUS3, 38 BDBUS2, 39 BDBUS1, 40 BDBUS0, 41 PWREN#, 42 VCC, 43 XTIN, 44 XTOUT, 45 AGND, 46 AVCC, 47 TEST, 48 EECS

## FT2232HL
designator *  (value not drawn)
footprint LQFP64 10x10_L (64脚，体宽10x10mm，脚距0.5mm)
footprint LQFP64 10x10_M (64脚，体宽10x10mm，脚距0.5mm)
footprint LQFP64 10x10_N (64脚，体宽10x10mm，脚距0.5mm)
pins: 1 GND, 2 OSCI, 3 OSCO, 4 VPHY, 5 GND, 6 REF, 7 DM, 8 DP, 9 VPLL, 10 AGND, 11 GND, 12 VCORE, 13 TEST, 14 RESET#, 15 GND, 16 ADBUS0, 17 ADBUS1, 18 ADBUS2, 19 ADBUS3, 20 VCCIO, 21 ADBUS4, 22 ADBUS5, 23 ADBUS6, 24 ADBUS7, 25 GND, 26 ACBUS0, 27 ACBUS1, 28 ACBUS2, 29 ACBUS3, 30 ACBUS4, 31 VCCIO, 32 ACBUS5, 33 ACBUS6, 34 ACBUS7, 35 GND, 36 SUSPEND#, 37 VCORE, 38 BDBUS0, 39 BDBUS1, 40 BDBUS2, 41 BDBUS3, 42 VCCIO, 43 BDBUS4, 44 BDBUS5, 45 BDBUS6, 46 BDBUS7, 47 GND, 48 BCBUS0, 49 VREGOUT, 50 VREGIN, 51 GND, 52 BCBUS1, 53 BCBUS2, 54 BCBUS3, 55 BCBUS4, 56 VCCIO, 57 BCBUS5, 58 BCBUS6, 59 BCBUS7, 60 PWREN#, 61 EEDATA, 62 EECLK, 63 EECS, 64 VCORE

## G2257
designator U?
4+1 channels PMIC
footprint QFN24 4x4_L (24脚，长x宽x高：4x4x1mm，脚距：0.5mm)
footprint QFN24 4x4_M (24脚，长x宽x高：4x4x1mm，脚距：0.5mm)
footprint QFN24 4x4_N (24脚，长x宽x高：4x4x1mm，脚距：0.5mm)
pins: 1 GND3, 2 FB3, 3 VCC, 4 AGND, 5 FB2, 6 GND2, 7 LX2, 8 VIN2, 9 EN2, 10 EN1, 11 VIN1, 12 LX1, 13 ENLDO, 14 FB1, 15 LDOFB, 16 LDOO, 17 FB4, 18 LDOIN, 19 LX4, 20 VIN4, 21 EN4, 22 EN3, 23 VIN3, 24 LX3, 25 GND

## GD25QXX
designator U?
Uniform Sector Dual and Quad Serial Flash
footprint USON3X2-8 (SON, 8-Leads, Body 2.00x3.00mm, Pitch 0.50mm, Thermal Pad 1.60x0.20mm, IPC Medium Density)
pins: 1 ~{CS}, 2 SO(IO1), 3 ~{WP}(IO2), 4 VSS, 5 SI(IO0), 6 SCLK, 7 ~{HOLD}(IO3), 8 VCC

## GD32EPRTRDT6
designator U?
footprint LQFP64 10x10_L (64脚，体宽10x10mm，脚距0.5mm)
footprint LQFP64 10x10_M (64脚，体宽10x10mm，脚距0.5mm)
footprint LQFP64 10x10_N (64脚，体宽10x10mm，脚距0.5mm)
pins: 1 VBAT, 2 PC13-TAMPER-RTC, 3 PC14-OSC32I N, 4 PC15-OSC32OUT, 5 PD0-OSCIN, 6 PD1-OSCOUT, 7 NRST, 8 PC0/ADC012_IN10, 9 PC1/ETH_MII_MDC/ETH_RMII_MDC, 10 PC2/ETH_MII_TXD2, 11 PC3/ADC012_IN13/ETH_MII_TX_CLK, 12 VSSA, 13 VDDA, 14 PA0-WKUP0/TIMER1_CH0/ETH_MII_CRS, 15 PA1/TIMER1_CH1/ETH_MII_RX_CLK/ETH_RMII_REF_CLK, 16 PA2/USART1_TX/TIMER1_CH2/ETH_MII_MDIO/ETH_RMII_MDIO, 17 PA3/USART1_RX/ETH_MII_COL, 18 VSS_4, 19 VDD_4, 20 PA4/DAC_OUT0/ADC01_IN4, 21 PA5/SPI0_SCK/DAC_OUT1/ADC01_IN5, 22 PA6/SPI0_MISO/TIMER2_CH0, 23 PA7/SPI0_MOS/ETH_MII_RX_DV/ETH_RMII_CRS_DV, 24 PC4/ETH_MII_RXD0/ETH_RMII_RXD0, 25 PC5/ETH_MII_RXD1/ETH_RMII_RXD1, 26 PB0/ETH_MII_RXD2, 27 PB1/ETH_MII_RXD3, 28 PB2/BOOT1, 29 PB10/USART2_TX/ETH_MII_RX_ER, 30 PB11/USART2_RX/ETH_MII_TX_EN/ETH_RMII_TX_EN, 31 VSS_1, 32 VDD_1, 33 PB12/ETH_MII_TXD0/ETH_RMII_TXD0, 34 PB13/SPI1_SCK/ETH_MII_TXD1/ETH_RMII_TXD1, 35 PB14/SPI1_MISO, 36 PB15/SPI1_MOSI, 37 PC6/USART5_TX, 38 PC7/USART5_RX, 39 PC8, 40 PC9, 41 PA8, 42 PA9/USART0_TX, 43 PA10/USART0_RX, 44 PA11/USBDM, 45 PA12/USBDP, 46 PA13/SWDIO, 47 VSS_2, 48 VDD_2, 49 PA14/SWCLK, 50 PA15, 51 PC10/UART3_TX, 52 PC11/UART3_RX, 53 PC12, 54 PD2, 55 PB3/SPI2_SCK, 56 PB4/SPI2_MISO, 57 PB5/SPI2_MOSI/ETH_MII_PPS_OUT/ETH_RMII_PPS_OUT, 58 PB6/TIMER3_CH0, 59 PB7/TIMER3_CH1, 60 BOOT0, 61 PB8/ETH_MII_TXD3, 62 PB9, 63 VSS_3, 64 VDD_3

## GP8201S
designator U?
DAC
footprint SOP8_L (4*5*1.8mm（长宽高）)
footprint SOP8_M (5*6*1.8mm（长宽高）)
footprint SOP8_N (5*6*1.8mm（长宽高）)
pins: 1 SCLK, 2 SDA, 3 NC, 4 VCC, 5 GND, 6 VOUT, 7 SEL, 8 V5V

## GT-TC127A-H052-L5
designator SW?  (value not drawn)
电路结构:单刀单掷;按钮形状:圆形按钮;作用力:1.8N;安装方式:弯插;开关长度:6.2mm;开关宽度:6.2mm;开关高度:5.2mm;带支架:带支架;触点电流:50mA;额定电压:12V;带灯:无;工作寿命:50万次;; Manufacturer: G-Switch(品赞); AddInBom: yes; Circuit: 单刀单掷; Actuator Style: 圆形按钮; Operating Force: 1.8N; Switch Height: 5.2mm; with Bracket: 带支架; Contact Current: 50mA; Voltage Rating: 12V; Actuator/Cap Color: 蓝色; With Lamp: 无; Life: 50万次; Symbol: GT-TC127A-H052-L5; Device: GT-TC127A-H052-L5; LCSC Part Name: 侧插防水轻触开关 硅胶蓝钮 180gf; SupplierPart: C5250851; ManufacturerPart: GT-TC127A-H052-L5; Supplier Footprint: SMD,6.2x6.2mm; JLCPCB Part Class: Extended Part; Datasheet: https://item.szlcsc.com/datasheet/GT-TC127A-H052-L5/5966575.html; Supplier: LCSC; ConvertToPcb: yes; FootprintName: SW-SMD_GT-TC127A-H052-L5; Mounting Type: 弯插; Length: 6.2mm; Width: 6.2mm; Termination Style: PC引脚; Operating Temperature: -40℃~+85℃
footprint GT-TC127A-H052-L5
pins: 1, 2, 3, 4, 5

## GW2A-LV18-QN88
designator U?
footprint QFN10x10-88 (QFN, 88-Leads, Body 10.00x10.00mm, Pitch 0.40mm, Thermal Pad 6.74x6.74mm, IPC Medium Density)
part A pins: 69 IOT50A, 70 IOT44B, 71 IOT44A, 72 IOT40B, 73 IOT40A, 74 IOT34B, 75 IOT34A, 76 IOT30B/GCLKC_1, 77 IOT30A/GCLKT_1, 79 IOT27B/GCLKC_0, 80 IOT27A/GCLKT_0, 81 IOT17B, 82 IOT17A, 83 IOT6B, 84 IOT6A, 85 IOT4B, 86 IOT4A
part B pins: 5 IOR25B/TMS, 6 IOR26A/TCK, 7 IOR26B/TDI, 8 IOR25A/TDO, 9 IOR31B/RECONFIG_N, 48 IOR49B, 49 IOR49A, 51 IOR45A/RPLL2_T_in, 52 IOR39A/SCLK, 53 IOR38B/DOUT/WE_N, 54 IOR38A/DIN/CLKHOLD_N, 55 IOR36B/SSPI_CS_N/D0, 56 IOR36A/SO/D1, 57 IOR35A/FASTRD_N/D3, 59 IOR34B/MCLK/D4, 60 IOR34A/MCS_N/D5, 61 IOR33B/MO/D6, 62 IOR33A/MI/D7, 63 IOR29A/GCLKT_3, 87 IOR30B/MODE1, 88 IOR30A/MODE0
part C pins: 25 IOB6A, 26 IOB6B, 27 IOB8A, 28 IOB8B, 29 IOB14A, 30 IOB14B, 31 IOB18A, 32 IOB18B, 33 IOB24A, 34 IOB24B, 35 IOB30A/GCLKT_4, 36 IOB30B/GCLKC_4, 37 IOB34A, 38 IOB34B, 39 IOB40A, 40 IOB40B, 41 IOB43A, 42 IOB42B
part D pins: 4 IOL7A/LPLL1_T_in, 10 IOL29A/GCLKT_6, 11 IOL29B/GCLKC_6, 13 IOL45A/LPLL2_T_in, 15 IOL47A/LPLL2_T_fb, 16 IOL47B/LPLL2_C_fb, 17 IOL49A, 18 IOL49B, 19 IOL51A, 20 IOL51B
part E pins: 1 VCC, 2 VSS, 3 VCCIO7, 12 VCCX/VCCIO2/VCCIO6, 14 VCCPLLL1, 21 VSS, 22 VCC, 23 VCCIO5, 24 VSS, 43 VSS, 44 VCCIO4, 45 VCC, 46 VSS, 47 EXTR, 50 VCCPLLR1, 58 VCCIO3, 64 VCCX/VCCIO2/VCCIO6, 65 VSS, 66 VCC, 67 VCCIO1, 68 VSS, 78 VCCIO0, 89 VSS
part A text: BANK0; BANK1
part B text: BANK2; BANK3
part C text: BANK4; BANK5
part D text: BANK6; BANK7

## HP20010-D
designator LCD?
2.0寸TFT液晶显示屏
footprint HP20010-D
pins: 1 GND, 2 RST, 3 RS/SCL, 4 WR/DC, 5 CS, 6 MOSI, 7 MISO, 8 GND, 9 VCC, 10 LEDA, 11 LEDK, 12 LEDK, 13 LEDK, 14 LEDK, 15 TP_SCL, 16 TP_RST, 17 TP_INT, 18 TP_SDA

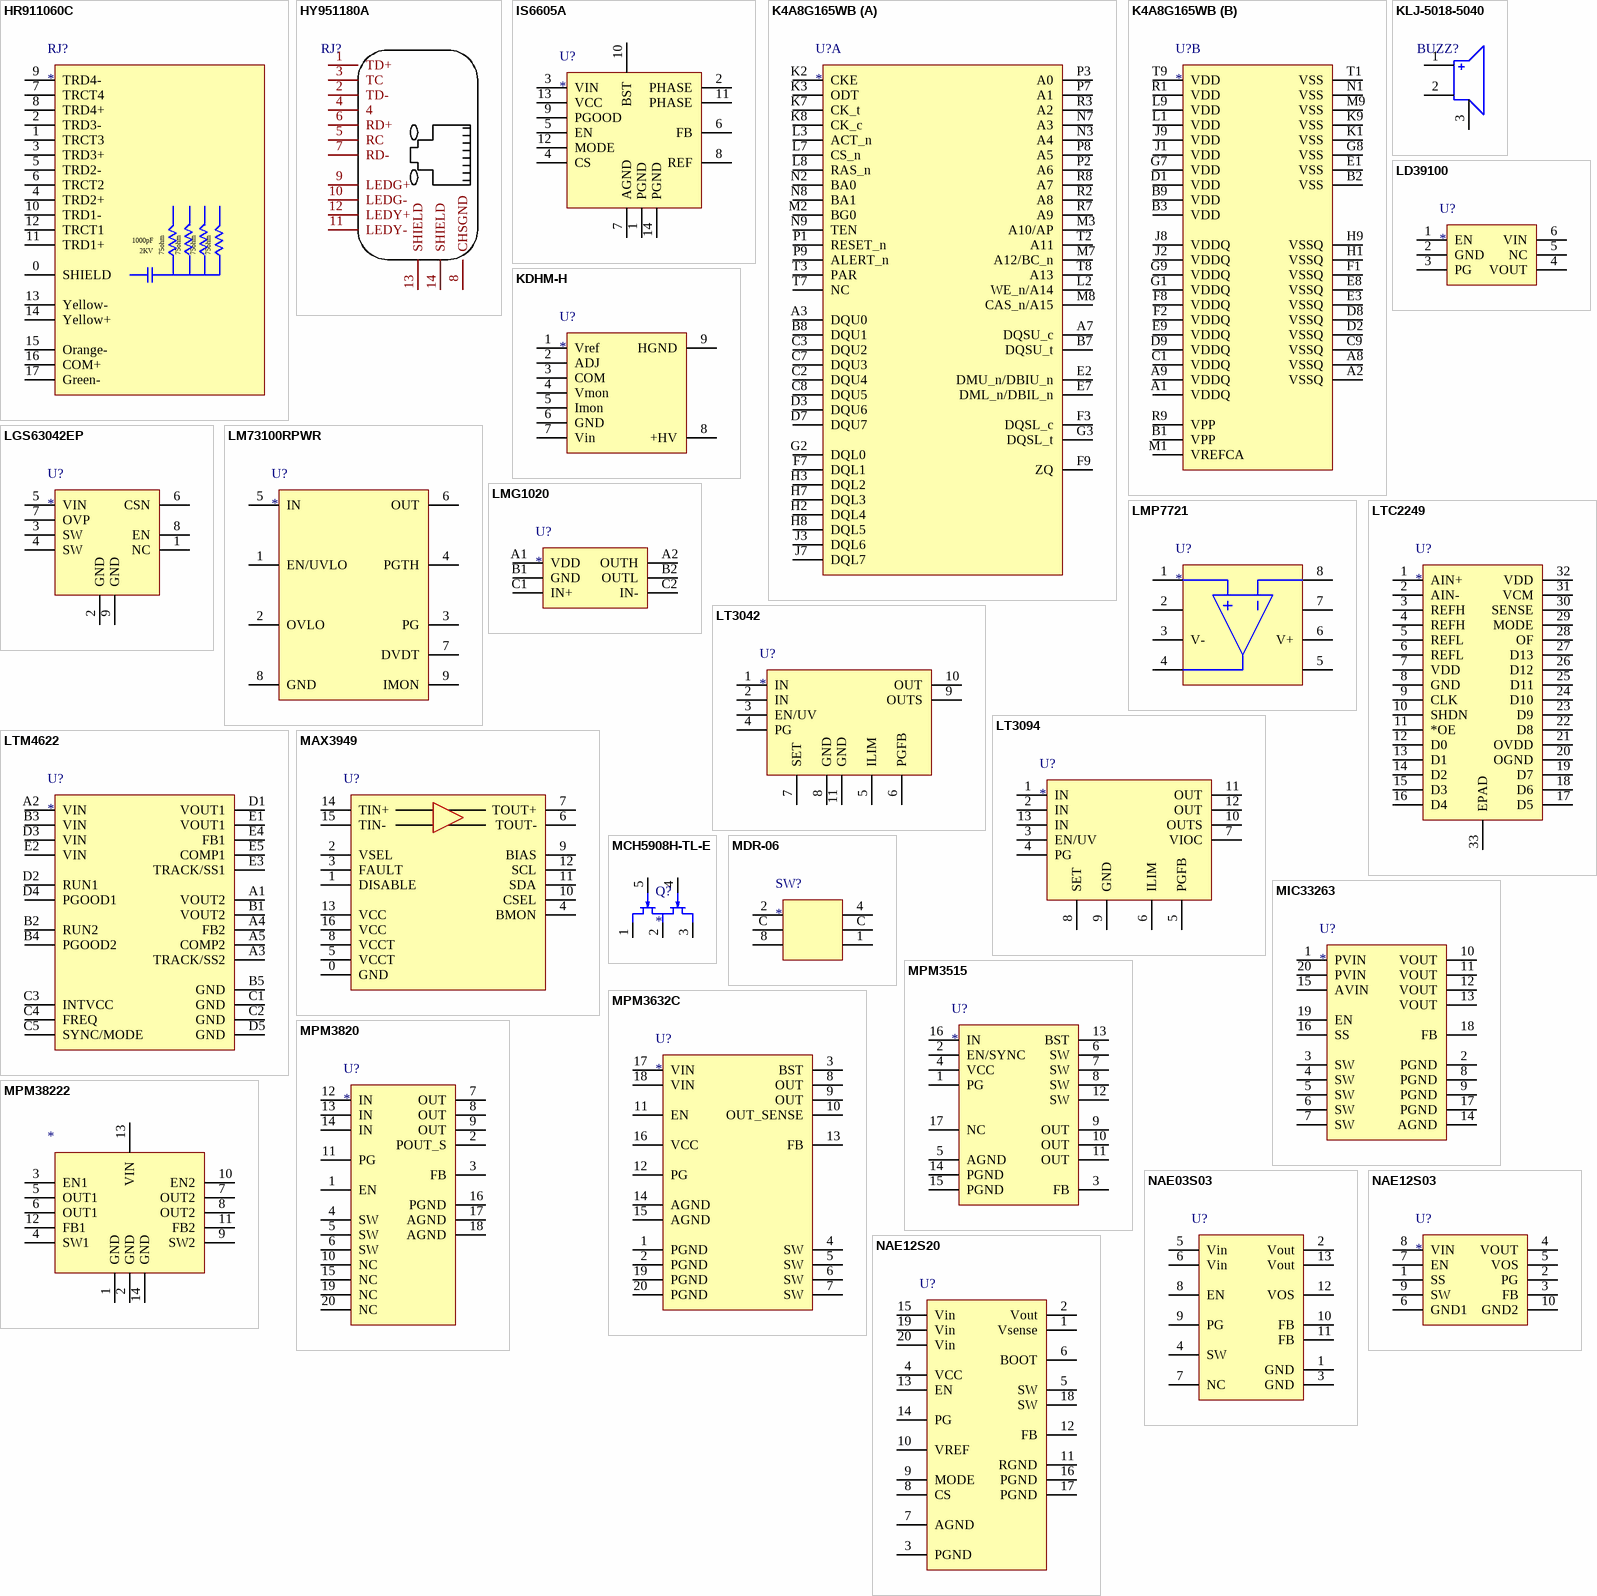
[diagram p4: symbols HR911060C to NAE12S20]

## HR911060C
designator RJ?
Low Profile 1x1 Port Tab-UP RJ45 Connector with Integrated Magnetics and LED for 10/100/1000Base-T Applications
footprint HR911060C
pins: 0 SHIELD, 1 TRCT3, 2 TRD3-, 3 TRD3+, 4 TRD2+, 5 TRD2-, 6 TRCT2, 7 TRCT4, 8 TRD4+, 9 TRD4-, 10 TRD1-, 11 TRD1+, 12 TRCT1, 13 Yellow-, 14 Yellow+, 15 Orange-, 16 COM+, 17 Green-
text: 1000pF; 75ohm; 2KV

## HY951180A
designator RJ?  (value not drawn)
RJ45 立式 百兆 带灯 带变压器 带屏蔽
footprint HY951180A
pins: 1 TD+, 2 TD-, 3 TC, 4, 5 RC, 6 RD+, 7 RD-, 8 CHSGND, 9 LEDG+, 10 LEDG-, 11 LEDY-, 12 LEDY+, 13 SHIELD, 14 SHIELD

## IS6605A
designator U?
4V to 16V Input, 6A Sync Step-Down Converter W/ Light Load / Mode, Programmable Switching Frequency and Over Current Limit
footprint QFN2x3-14
pins: 1 PGND, 2 PHASE, 3 VIN, 4 CS, 5 EN, 6 FB, 7 AGND, 8 REF, 9 PGOOD, 10 BST, 11 PHASE, 12 MODE, 13 VCC, 14 PGND

## K4A8G165WB
designator U?
8Gb B-die DDR4 SDRAM
footprint FBGA-96
part A pins: A3 DQU0, A7 DQSU_c, B7 DQSU_t, B8 DQU1, C2 DQU4, C3 DQU2, C7 DQU3, C8 DQU5, D3 DQU6, D7 DQU7, E2 DMU_n/DBIU_n, E7 DML_n/DBIL_n, F3 DQSL_c, F7 DQL1, F9 ZQ, G2 DQL0, G3 DQSL_t, H2 DQL4, H3 DQL2, H7 DQL3, H8 DQL5, J3 DQL6, J7 DQL7, K2 CKE, K3 ODT, K7 CK_t, K8 CK_c, L2 WE_n/A14, L3 ACT_n, L7 CS_n, L8 RAS_n, M2 BG0, M3 A10/AP, M7 A12/BC_n, M8 CAS_n/A15, N2 BA0, N3 A4, N7 A3, N8 BA1, N9 TEN, P1 RESET_n, P2 A6, P3 A0, P7 A1, P8 A5, P9 ALERT_n, R2 A8, R3 A2, R7 A9, R8 A7, T2 A11, T3 PAR, T7 NC, T8 A13
part B pins: A1 VDDQ, A2 VSSQ, A8 VSSQ, A9 VDDQ, B1 VPP, B2 VSS, B3 VDD, B9 VDD, C1 VDDQ, C9 VSSQ, D1 VDD, D2 VSSQ, D8 VSSQ, D9 VDDQ, E1 VSS, E3 VSSQ, E8 VSSQ, E9 VDDQ, F1 VSSQ, F2 VDDQ, F8 VDDQ, G1 VDDQ, G7 VDD, G8 VSS, G9 VDDQ, H1 VSSQ, H9 VSSQ, J1 VDD, J2 VDDQ, J8 VDDQ, J9 VDD, K1 VSS, K9 VSS, L1 VDD, L9 VDD, M1 VREFCA, M9 VSS, N1 VSS, R1 VDD, R9 VPP, T1 VSS, T9 VDD

## KDHM-H
designator U?
footprint KDHM-H
pins: 1 Vref, 2 ADJ, 3 COM, 4 Vmon, 5 Imon, 6 GND, 7 Vin, 8 +HV, 9 HGND

## KLJ-5018-5040
designator BUZZ?  (value not drawn)
footprint KLJ-5018-5040 (Footprint not found)
pins: 1, 2, 3

## LD39100
designator U?
Automotive grade 1 A, low quiescent current, low-noise voltage regulator
footprint DFN3x3-6
pins: 1 EN, 2 GND, 3 PG, 4 VOUT, 5 NC, 6 VIN

## LGS63042EP
designator U?
60V 升压型、降压型、升降压型 LED 恒流驱动器
footprint ESOP8_L (5*6*1.8mm（长宽高）)
footprint ESOP8_M (5*6*1.8mm（长宽高）)
footprint ESOP8_N (5*6*1.8mm（长宽高）)
pins: 1 NC, 2 GND, 3 SW, 4 SW, 5 VIN, 6 CSN, 7 OVP, 8 EN, 9 GND

## LM73100RPWR
designator U?
2.7 - 23 V, 5.5 A Integrated Ideal Diode with Input Reverse Polarity and / Overvoltage Protection
footprint QFN2x2-10_LM73100 (Footprint not found)
pins: 1 EN/UVLO, 2 OVLO, 3 PG, 4 PGTH, 5 IN, 6 OUT, 7 DVDT, 8 GND, 9 IMON

## LMG1020
designator U?
适用于 1ns 脉宽应用的 LMG1020 5V 7A/5A 低侧 GaN 和 MOSFET 驱动 / 器
footprint WLCSP1.2x0.8-6
pins: A1 VDD, A2 OUTH, B1 GND, B2 OUTL, C1 IN+, C2 IN-

## LMP7721
designator U?
3 毫微微安输入偏置电流精密放大器
footprint SOP8_L (4*5*1.8mm（长宽高）)
footprint SOP8_M (5*6*1.8mm（长宽高）)
footprint SOP8_N (5*6*1.8mm（长宽高）)
pins: 1 IN+, 2 NC, 3 V-, 4 VOUT, 5 NC, 6 V+, 7 NC, 8 IN-

## LT3042
designator U?
20V, 200mA, Ultralow Noise, / Ultrahigh PSRR RF Linear Regulator
footprint DFN3x3-10 (Footprint not found)
pins: 1 IN, 2 IN, 3 EN/UV, 4 PG, 5 ILIM, 6 PGFB, 7 SET, 8 GND, 9 OUTS, 10 OUT, 11 GND

## LT3094
designator U?
–20V, 500mA, Ultralow / Noise, Ultrahigh PSRR / Negative Linear Regulator
footprint DFN3x3-12 (Footprint not found)
pins: 1 IN, 2 IN, 3 EN/UV, 4 PG, 5 PGFB, 6 ILIM, 7 VIOC, 8 SET, 9 GND, 10 OUTS, 11 OUT, 12 OUT, 13 IN

## LTC2249
designator U?
14 位、80Msps 低功率 3V ADC
footprint QFN5x5-32
pins: 1 AIN+, 2 AIN-, 3 REFH, 4 REFH, 5 REFL, 6 REFL, 7 VDD, 8 GND, 9 CLK, 10 SHDN, 11 *OE, 12 D0, 13 D1, 14 D2, 15 D3, 16 D4, 17 D5, 18 D6, 19 D7, 20 OGND, 21 OVDD, 22 D8, 23 D9, 24 D10, 25 D11, 26 D12, 27 D13, 28 OF, 29 MODE, 30 SENSE, 31 VCM, 32 VDD, 33 EPAD

## LTM4622
designator U?
2路2.5A模块
footprint BGA6.25x6.25-25 (BGA, 25-Leads, Body 6.25x6.25mmx2.62mm, Pitch 1.27mm)
pins: A1 VOUT2, A2 VIN, A3 TRACK/SS2, A4 FB2, A5 COMP2, B1 VOUT2, B2 RUN2, B3 VIN, B4 PGOOD2, B5 GND, C1 GND, C2 GND, C3 INTVCC, C4 FREQ, C5 SYNC/MODE, D1 VOUT1, D2 RUN1, D3 VIN, D4 PGOOD1, D5 GND, E1 VOUT1, E2 VIN, E3 TRACK/SS1, E4 FB1, E5 COMP1

## MAX3949
designator U?  (value not drawn)
11.3Gbps, Low-Power, AC-Coupled Laser Driver
footprint QFN3x3-16 (Footprint not found)
pins: 0 GND, 1 DISABLE, 2 VSEL, 3 FAULT, 4 BMON, 5 VCCT, 6 TOUT-, 7 TOUT+, 8 VCCT, 9 BIAS, 10 CSEL, 11 SDA, 12 SCL, 13 VCC, 14 TIN+, 15 TIN-, 16 VCC

## MCH5908H-TL-E
designator Q?
footprint MCPH5 (Footprint not found)
pins: 1 D1, 2 S1/S2, 3 D2, 4 G2, 5 G1

## MDR-06
designator SW?
footprint MDR-06 (Footprint not found)
pins: 1, 2, 4 NC, 8 NC, C, C

## MIC33263
designator U?
4MHz, 2A Buck Regulator with Integrated Inductor and HyperLight Load
footprint QFN2.5x3-20
pins: 1 PVIN, 2 PGND, 3 SW, 4 SW, 5 SW, 6 SW, 7 SW, 8 PGND, 9 PGND, 10 VOUT, 11 VOUT, 12 VOUT, 13 VOUT, 14 AGND, 15 AVIN, 16 SS, 17 PGND, 18 FB, 19 EN, 20 PVIN

## MPM3515
designator U?
内部集成电感的 36V，1.5A同步降压变换器模块
footprint QFN3x5-17
pins: 1 PG, 2 EN/SYNC, 3 FB, 4 VCC, 5 AGND, 6 SW, 7 SW, 8 SW, 9 OUT, 10 OUT, 11 OUT, 12 SW, 13 BST, 14 PGND, 15 PGND, 16 IN, 17 NC

## MPM3632C
designator U?
footprint QFN3x5-20 (Footprint not found)
pins: 1 PGND, 2 PGND, 3 BST, 4 SW, 5 SW, 6 SW, 7 SW, 8 OUT, 9 OUT, 10 OUT_SENSE, 11 EN, 12 PG, 13 FB, 14 AGND, 15 AGND, 16 VCC, 17 VIN, 18 VIN, 19 PGND, 20 PGND

## MPM3820
designator U?
footprint QFN3x5-18 (Footprint not found)
pins: 1 EN, 2 POUT_S, 3 FB, 4 SW, 5 SW, 6 SW, 7 OUT, 8 OUT, 9 OUT, 10 NC, 11 PG, 12 IN, 13 IN, 14 IN, 15 NC, 16 PGND, 17 AGND, 18 AGND, 19 NC, 20 NC

## MPM38222
designator *  (value not drawn)
footprint QFN4x4-14
pins: 1 GND, 2 GND, 3 EN1, 4 SW1, 5 OUT1, 6 OUT1, 7 OUT2, 8 OUT2, 9 SW2, 10 EN2, 11 FB2, 12 FB1, 13 VIN, 14 GND

## NAE03S03
designator U?  (value not drawn)
NAE03S03-B是一款封装级（PSiP）DC-DC电 / 源模块，输入电压范围为3V~5.75V，最大输出 / 电流为3A，输出电压可调范围为0.8V~3.7V。
footprint NAE03S03
pins: 1 GND, 2 Vout, 3 GND, 4 SW, 5 Vin, 6 Vin, 7 NC, 8 EN, 9 PG, 10 FB, 11 FB, 12 VOS, 13 Vout

## NAE12S03
designator U?
12V输入3A输出电源模块
footprint NAE12S03
pins: 1 SS, 2 PG, 3 FB, 4 VOUT, 5 VOS, 6 GND1, 7 EN, 8 VIN, 9 SW, 10 GND2

## NAE12S20
designator U?  (value not drawn)
DC-DC电源模块，输入电压范围为3V~14V，最大输出电流为20A，输出电压可在0.6V~5.5V范围内调节。
footprint NAE12S20
pins: 1 Vsense, 2 Vout, 3 PGND, 4 VCC, 5 SW, 6 BOOT, 7 AGND, 8 CS, 9 MODE, 10 VREF, 11 RGND, 12 FB, 13 EN, 14 PG, 15 Vin, 16 PGND, 17 PGND, 18 SW, 19 Vin, 20 Vin

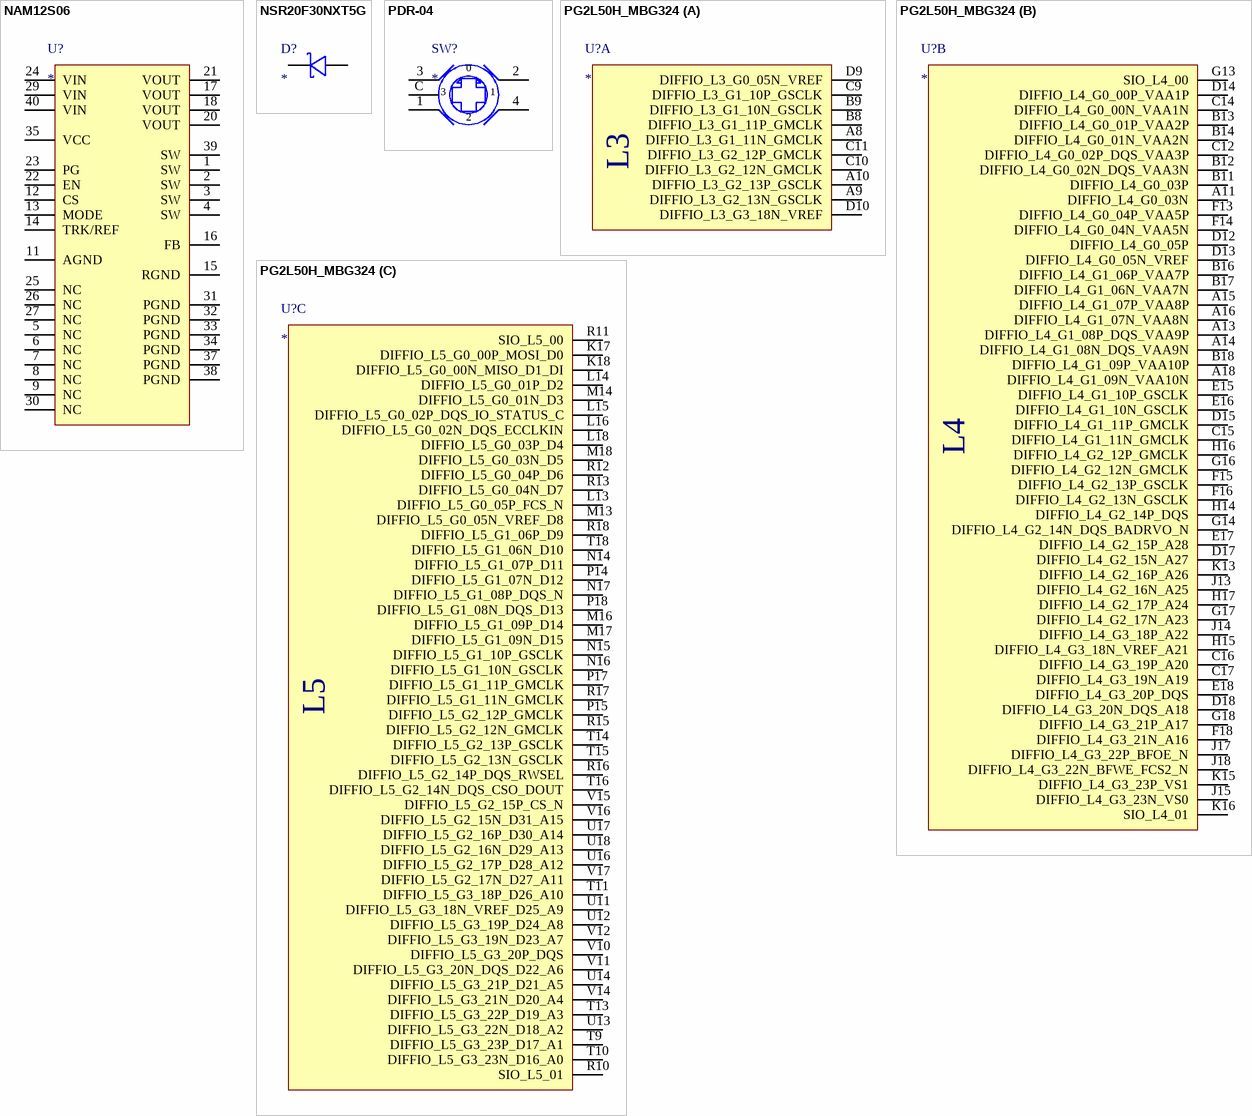
[diagram p5: symbols NAM12S06 to PG2L50H_MBG324]

## NAM12S06
designator U?
DC-DC电源模块，输入电压为9V~14V，最大输出电流为6A，输出电压可调范围为0.7V~5.4V。
footprint NAM12S06
pins: 1 SW, 2 SW, 3 SW, 4 SW, 5 NC, 6 NC, 7 NC, 8 NC, 9 NC, 11 AGND, 12 CS, 13 MODE, 14 TRK/REF, 15 RGND, 16 FB, 17 VOUT, 18 VOUT, 20 VOUT, 21 VOUT, 22 EN, 23 PG, 24 VIN, 25 NC, 26 NC, 27 NC, 29 VIN, 30 NC, 31 PGND, 32 PGND, 33 PGND, 34 PGND, 35 VCC, 37 PGND, 38 PGND, 39 SW, 40 VIN

## NSR20F30NXT5G
designator D?
Schottky Barrier Diode
footprint DSN2
pins: 1 C, 2 A

## PDR-04
designator SW?
footprint PDR-04 (Footprint not found)
pins: 1, 2, 3, 4, C
text: 0

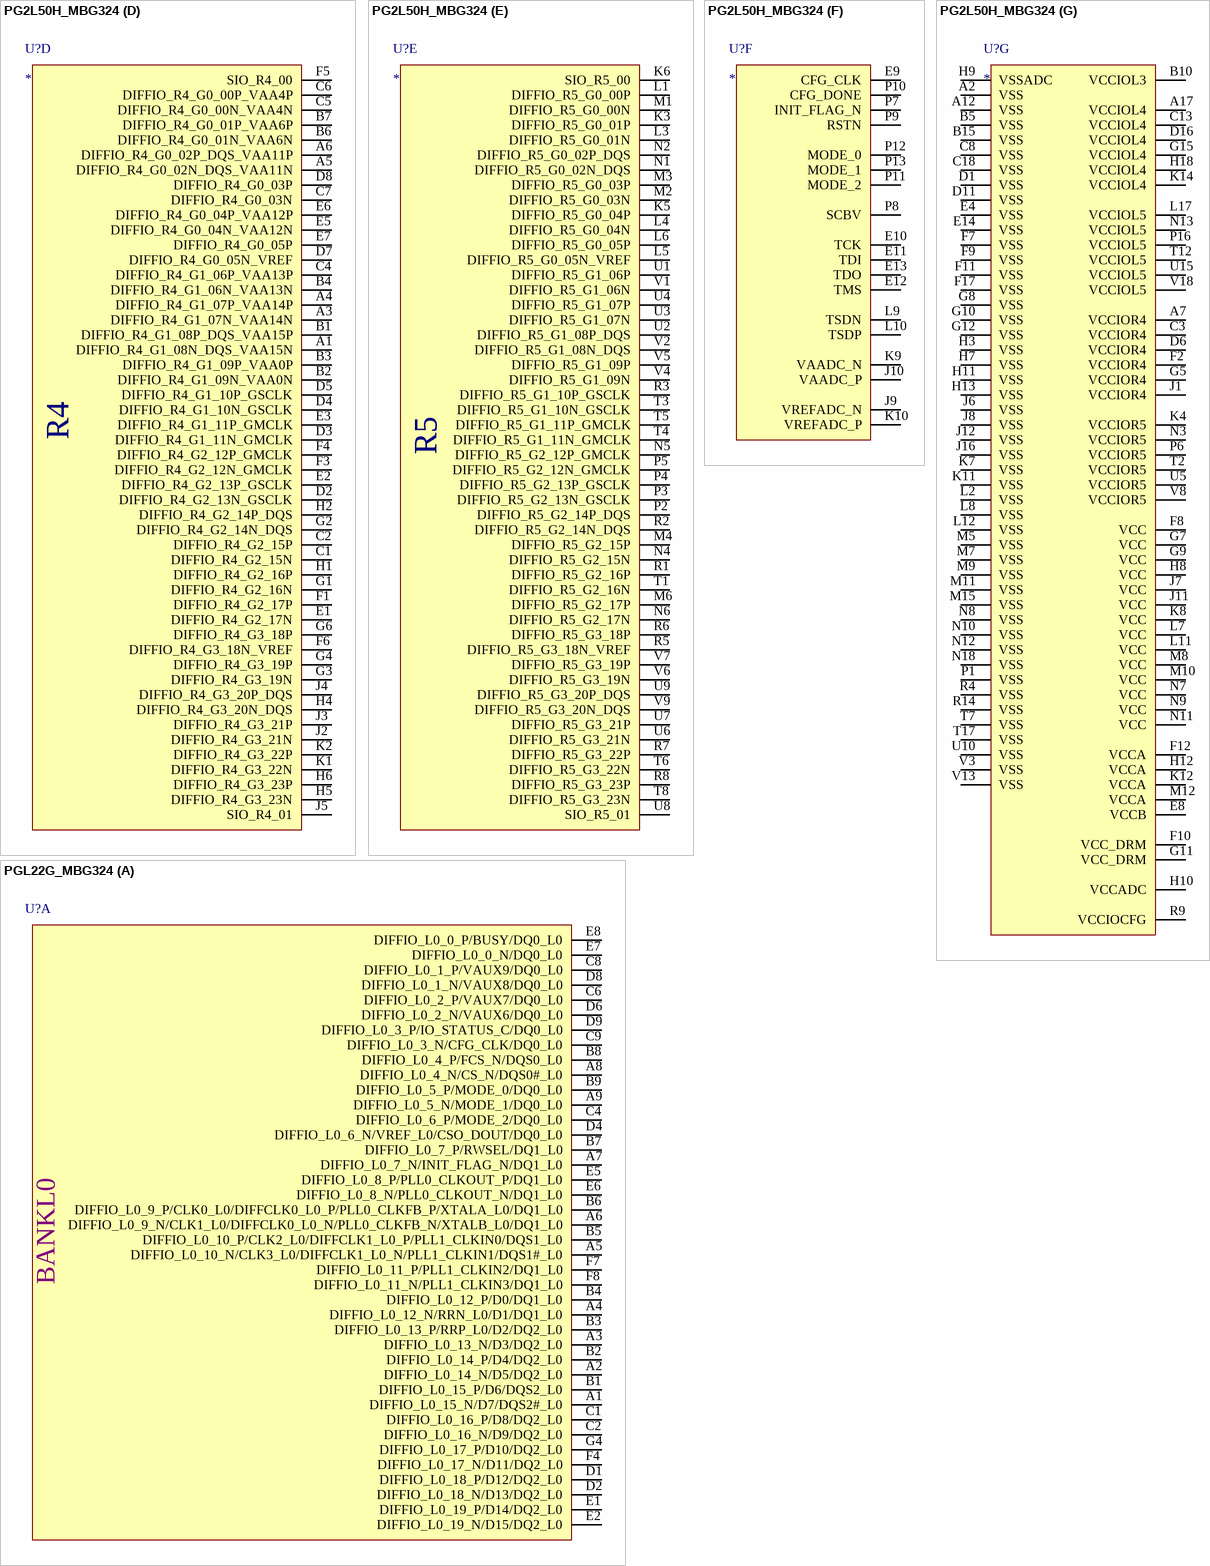
[diagram p6: symbols PG2L50H_MBG324 to PGL22G_MBG324]

## PG2L50H_MBG324
designator U?
footprint MBG324 (Footprint not found)
part A pins: A8 DIFFIO_L3_G1_11N_GMCLK, A9 DIFFIO_L3_G2_13N_GSCLK, A10 DIFFIO_L3_G2_13P_GSCLK, B8 DIFFIO_L3_G1_11P_GMCLK, B9 DIFFIO_L3_G1_10N_GSCLK, C9 DIFFIO_L3_G1_10P_GSCLK, C10 DIFFIO_L3_G2_12N_GMCLK, C11 DIFFIO_L3_G2_12P_GMCLK, D9 DIFFIO_L3_G0_05N_VREF, D10 DIFFIO_L3_G3_18N_VREF
part B pins: A11 DIFFIO_L4_G0_03N, A13 DIFFIO_L4_G1_08P_DQS_VAA9P, A14 DIFFIO_L4_G1_08N_DQS_VAA9N, A15 DIFFIO_L4_G1_07P_VAA8P, A16 DIFFIO_L4_G1_07N_VAA8N, A18 DIFFIO_L4_G1_09N_VAA10N, B11 DIFFIO_L4_G0_03P, B12 DIFFIO_L4_G0_02N_DQS_VAA3N, B13 DIFFIO_L4_G0_01P_VAA2P, B14 DIFFIO_L4_G0_01N_VAA2N, B16 DIFFIO_L4_G1_06P_VAA7P, B17 DIFFIO_L4_G1_06N_VAA7N, B18 DIFFIO_L4_G1_09P_VAA10P, C12 DIFFIO_L4_G0_02P_DQS_VAA3P, C14 DIFFIO_L4_G0_00N_VAA1N, C15 DIFFIO_L4_G1_11N_GMCLK, C16 DIFFIO_L4_G3_19P_A20, C17 DIFFIO_L4_G3_19N_A19, D12 DIFFIO_L4_G0_05P, D13 DIFFIO_L4_G0_05N_VREF, D14 DIFFIO_L4_G0_00P_VAA1P, D15 DIFFIO_L4_G1_11P_GMCLK, D17 DIFFIO_L4_G2_15N_A27, D18 DIFFIO_L4_G3_20N_DQS_A18, E15 DIFFIO_L4_G1_10P_GSCLK, E16 DIFFIO_L4_G1_10N_GSCLK, E17 DIFFIO_L4_G2_15P_A28, E18 DIFFIO_L4_G3_20P_DQS, F13 DIFFIO_L4_G0_04P_VAA5P, F14 DIFFIO_L4_G0_04N_VAA5N, F15 DIFFIO_L4_G2_13P_GSCLK, F16 DIFFIO_L4_G2_13N_GSCLK, F18 DIFFIO_L4_G3_21N_A16, G13 SIO_L4_00, G14 DIFFIO_L4_G2_14N_DQS_BADRVO_N, G16 DIFFIO_L4_G2_12N_GMCLK, G17 DIFFIO_L4_G2_17N_A23, G18 DIFFIO_L4_G3_21P_A17, H14 DIFFIO_L4_G2_14P_DQS, H15 DIFFIO_L4_G3_18N_VREF_A21, H16 DIFFIO_L4_G2_12P_GMCLK, H17 DIFFIO_L4_G2_17P_A24, J13 DIFFIO_L4_G2_16N_A25, J14 DIFFIO_L4_G3_18P_A22, J15 DIFFIO_L4_G3_23N_VS0, J17 DIFFIO_L4_G3_22P_BFOE_N, J18 DIFFIO_L4_G3_22N_BFWE_FCS2_N, K13 DIFFIO_L4_G2_16P_A26, K15 DIFFIO_L4_G3_23P_VS1, K16 SIO_L4_01
part C pins: K17 DIFFIO_L5_G0_00P_MOSI_D0, K18 DIFFIO_L5_G0_00N_MISO_D1_DI, L13 DIFFIO_L5_G0_05P_FCS_N, L14 DIFFIO_L5_G0_01P_D2, L15 DIFFIO_L5_G0_02P_DQS_IO_STATUS_C, L16 DIFFIO_L5_G0_02N_DQS_ECCLKIN, L18 DIFFIO_L5_G0_03P_D4, M13 DIFFIO_L5_G0_05N_VREF_D8, M14 DIFFIO_L5_G0_01N_D3, M16 DIFFIO_L5_G1_09P_D14, M17 DIFFIO_L5_G1_09N_D15, M18 DIFFIO_L5_G0_03N_D5, N14 DIFFIO_L5_G1_07P_D11, N15 DIFFIO_L5_G1_10P_GSCLK, N16 DIFFIO_L5_G1_10N_GSCLK, N17 DIFFIO_L5_G1_08P_DQS_N, P14 DIFFIO_L5_G1_07N_D12, P15 DIFFIO_L5_G2_12P_GMCLK, P17 DIFFIO_L5_G1_11P_GMCLK, P18 DIFFIO_L5_G1_08N_DQS_D13, R10 SIO_L5_01, R11 SIO_L5_00, R12 DIFFIO_L5_G0_04P_D6, R13 DIFFIO_L5_G0_04N_D7, R15 DIFFIO_L5_G2_12N_GMCLK, R16 DIFFIO_L5_G2_14P_DQS_RWSEL, R17 DIFFIO_L5_G1_11N_GMCLK, R18 DIFFIO_L5_G1_06P_D9, T9 DIFFIO_L5_G3_23P_D17_A1, T10 DIFFIO_L5_G3_23N_D16_A0, T11 DIFFIO_L5_G3_18P_D26_A10, T13 DIFFIO_L5_G3_22P_D19_A3, T14 DIFFIO_L5_G2_13P_GSCLK, T15 DIFFIO_L5_G2_13N_GSCLK, T16 DIFFIO_L5_G2_14N_DQS_CSO_DOUT, T18 DIFFIO_L5_G1_06N_D10, U11 DIFFIO_L5_G3_18N_VREF_D25_A9, U12 DIFFIO_L5_G3_19P_D24_A8, U13 DIFFIO_L5_G3_22N_D18_A2, U14 DIFFIO_L5_G3_21P_D21_A5, U16 DIFFIO_L5_G2_17P_D28_A12, U17 DIFFIO_L5_G2_16P_D30_A14, U18 DIFFIO_L5_G2_16N_D29_A13, V10 DIFFIO_L5_G3_20P_DQS, V11 DIFFIO_L5_G3_20N_DQS_D22_A6, V12 DIFFIO_L5_G3_19N_D23_A7, V14 DIFFIO_L5_G3_21N_D20_A4, V15 DIFFIO_L5_G2_15P_CS_N, V16 DIFFIO_L5_G2_15N_D31_A15, V17 DIFFIO_L5_G2_17N_D27_A11
part D pins: A1 DIFFIO_R4_G1_08N_DQS_VAA15N, A3 DIFFIO_R4_G1_07N_VAA14N, A4 DIFFIO_R4_G1_07P_VAA14P, A5 DIFFIO_R4_G0_02N_DQS_VAA11N, A6 DIFFIO_R4_G0_02P_DQS_VAA11P, B1 DIFFIO_R4_G1_08P_DQS_VAA15P, B2 DIFFIO_R4_G1_09N_VAA0N, B3 DIFFIO_R4_G1_09P_VAA0P, B4 DIFFIO_R4_G1_06N_VAA13N, B6 DIFFIO_R4_G0_01N_VAA6N, B7 DIFFIO_R4_G0_01P_VAA6P, C1 DIFFIO_R4_G2_15N, C2 DIFFIO_R4_G2_15P, C4 DIFFIO_R4_G1_06P_VAA13P, C5 DIFFIO_R4_G0_00N_VAA4N, C6 DIFFIO_R4_G0_00P_VAA4P, C7 DIFFIO_R4_G0_03N, D2 DIFFIO_R4_G2_13N_GSCLK, D3 DIFFIO_R4_G1_11N_GMCLK, D4 DIFFIO_R4_G1_10N_GSCLK, D5 DIFFIO_R4_G1_10P_GSCLK, D7 DIFFIO_R4_G0_05N_VREF, D8 DIFFIO_R4_G0_03P, E1 DIFFIO_R4_G2_17N, E2 DIFFIO_R4_G2_13P_GSCLK, E3 DIFFIO_R4_G1_11P_GMCLK, E5 DIFFIO_R4_G0_04N_VAA12N, E6 DIFFIO_R4_G0_04P_VAA12P, E7 DIFFIO_R4_G0_05P, F1 DIFFIO_R4_G2_17P, F3 DIFFIO_R4_G2_12N_GMCLK, F4 DIFFIO_R4_G2_12P_GMCLK, F5 SIO_R4_00, F6 DIFFIO_R4_G3_18N_VREF, G1 DIFFIO_R4_G2_16N, G2 DIFFIO_R4_G2_14N_DQS, G3 DIFFIO_R4_G3_19N, G4 DIFFIO_R4_G3_19P, G6 DIFFIO_R4_G3_18P, H1 DIFFIO_R4_G2_16P, H2 DIFFIO_R4_G2_14P_DQS, H4 DIFFIO_R4_G3_20N_DQS, H5 DIFFIO_R4_G3_23N, H6 DIFFIO_R4_G3_23P, J2 DIFFIO_R4_G3_21N, J3 DIFFIO_R4_G3_21P, J4 DIFFIO_R4_G3_20P_DQS, J5 SIO_R4_01, K1 DIFFIO_R4_G3_22N, K2 DIFFIO_R4_G3_22P
part E pins: K3 DIFFIO_R5_G0_01P, K5 DIFFIO_R5_G0_04P, K6 SIO_R5_00, L1 DIFFIO_R5_G0_00P, L3 DIFFIO_R5_G0_01N, L4 DIFFIO_R5_G0_04N, L5 DIFFIO_R5_G0_05N_VREF, L6 DIFFIO_R5_G0_05P, M1 DIFFIO_R5_G0_00N, M2 DIFFIO_R5_G0_03N, M3 DIFFIO_R5_G0_03P, M4 DIFFIO_R5_G2_15P, M6 DIFFIO_R5_G2_17P, N1 DIFFIO_R5_G0_02N_DQS, N2 DIFFIO_R5_G0_02P_DQS, N4 DIFFIO_R5_G2_15N, N5 DIFFIO_R5_G2_12P_GMCLK, N6 DIFFIO_R5_G2_17N, P2 DIFFIO_R5_G2_14P_DQS, P3 DIFFIO_R5_G2_13N_GSCLK, P4 DIFFIO_R5_G2_13P_GSCLK, P5 DIFFIO_R5_G2_12N_GMCLK, R1 DIFFIO_R5_G2_16P, R2 DIFFIO_R5_G2_14N_DQS, R3 DIFFIO_R5_G1_10P_GSCLK, R5 DIFFIO_R5_G3_18N_VREF, R6 DIFFIO_R5_G3_18P, R7 DIFFIO_R5_G3_22P, R8 DIFFIO_R5_G3_23P, T1 DIFFIO_R5_G2_16N, T3 DIFFIO_R5_G1_10N_GSCLK, T4 DIFFIO_R5_G1_11N_GMCLK, T5 DIFFIO_R5_G1_11P_GMCLK, T6 DIFFIO_R5_G3_22N, T8 DIFFIO_R5_G3_23N, U1 DIFFIO_R5_G1_06P, U2 DIFFIO_R5_G1_08P_DQS, U3 DIFFIO_R5_G1_07N, U4 DIFFIO_R5_G1_07P, U6 DIFFIO_R5_G3_21N, U7 DIFFIO_R5_G3_21P, U8 SIO_R5_01, U9 DIFFIO_R5_G3_20P_DQS, V1 DIFFIO_R5_G1_06N, V2 DIFFIO_R5_G1_08N_DQS, V4 DIFFIO_R5_G1_09N, V5 DIFFIO_R5_G1_09P, V6 DIFFIO_R5_G3_19N, V7 DIFFIO_R5_G3_19P, V9 DIFFIO_R5_G3_20N_DQS
part F pins: E9 CFG_CLK, E10 TCK, E11 TDI, E12 TMS, E13 TDO, J9 VREFADC_N, J10 VAADC_P, K9 VAADC_N, K10 VREFADC_P, L9 TSDN, L10 TSDP, P7 INIT_FLAG_N, P8 SCBV, P9 RSTN, P10 CFG_DONE, P11 MODE_2, P12 MODE_0, P13 MODE_1
part G pins: A2 VSS, A7 VCCIOR4, A12 VSS, A17 VCCIOL4, B5 VSS, B10 VCCIOL3, B15 VSS, C3 VCCIOR4, C8 VSS, C13 VCCIOL4, C18 VSS, D1 VSS, D6 VCCIOR4, D11 VSS, D16 VCCIOL4, E4 VSS, E8 VCCB, E14 VSS, F2 VCCIOR4, F7 VSS, F8 VCC, F9 VSS, F10 VCC_DRM, F11 VSS, F12 VCCA, F17 VSS, G5 VCCIOR4, G7 VCC, G8 VSS, G9 VCC, G10 VSS, G11 VCC_DRM, G12 VSS, G15 VCCIOL4, H3 VSS, H7 VSS, H8 VCC, H9 VSSADC, H10 VCCADC, H11 VSS, H12 VCCA, H13 VSS, H18 VCCIOL4, J1 VCCIOR4, J6 VSS, J7 VCC, J8 VSS, J11 VCC, J12 VSS, J16 VSS, K4 VCCIOR5, K7 VSS, K8 VCC, K11 VSS, K12 VCCA, K14 VCCIOL4, L2 VSS, L7 VCC, L8 VSS, L11 VCC, L12 VSS, L17 VCCIOL5, M5 VSS, M7 VSS, M8 VCC, M9 VSS, M10 VCC, M11 VSS, M12 VCCA, M15 VSS, N3 VCCIOR5, N7 VCC, N8 VSS, N9 VCC, N10 VSS, N11 VCC, N12 VSS, N13 VCCIOL5, N18 VSS, P1 VSS, P6 VCCIOR5, P16 VCCIOL5, R4 VSS, R9 VCCIOCFG, R14 VSS, T2 VCCIOR5, T7 VSS, T12 VCCIOL5, T17 VSS, U5 VCCIOR5, U10 VSS, U15 VCCIOL5, V3 VSS, V8 VCCIOR5, V13 VSS, V18 VCCIOL5

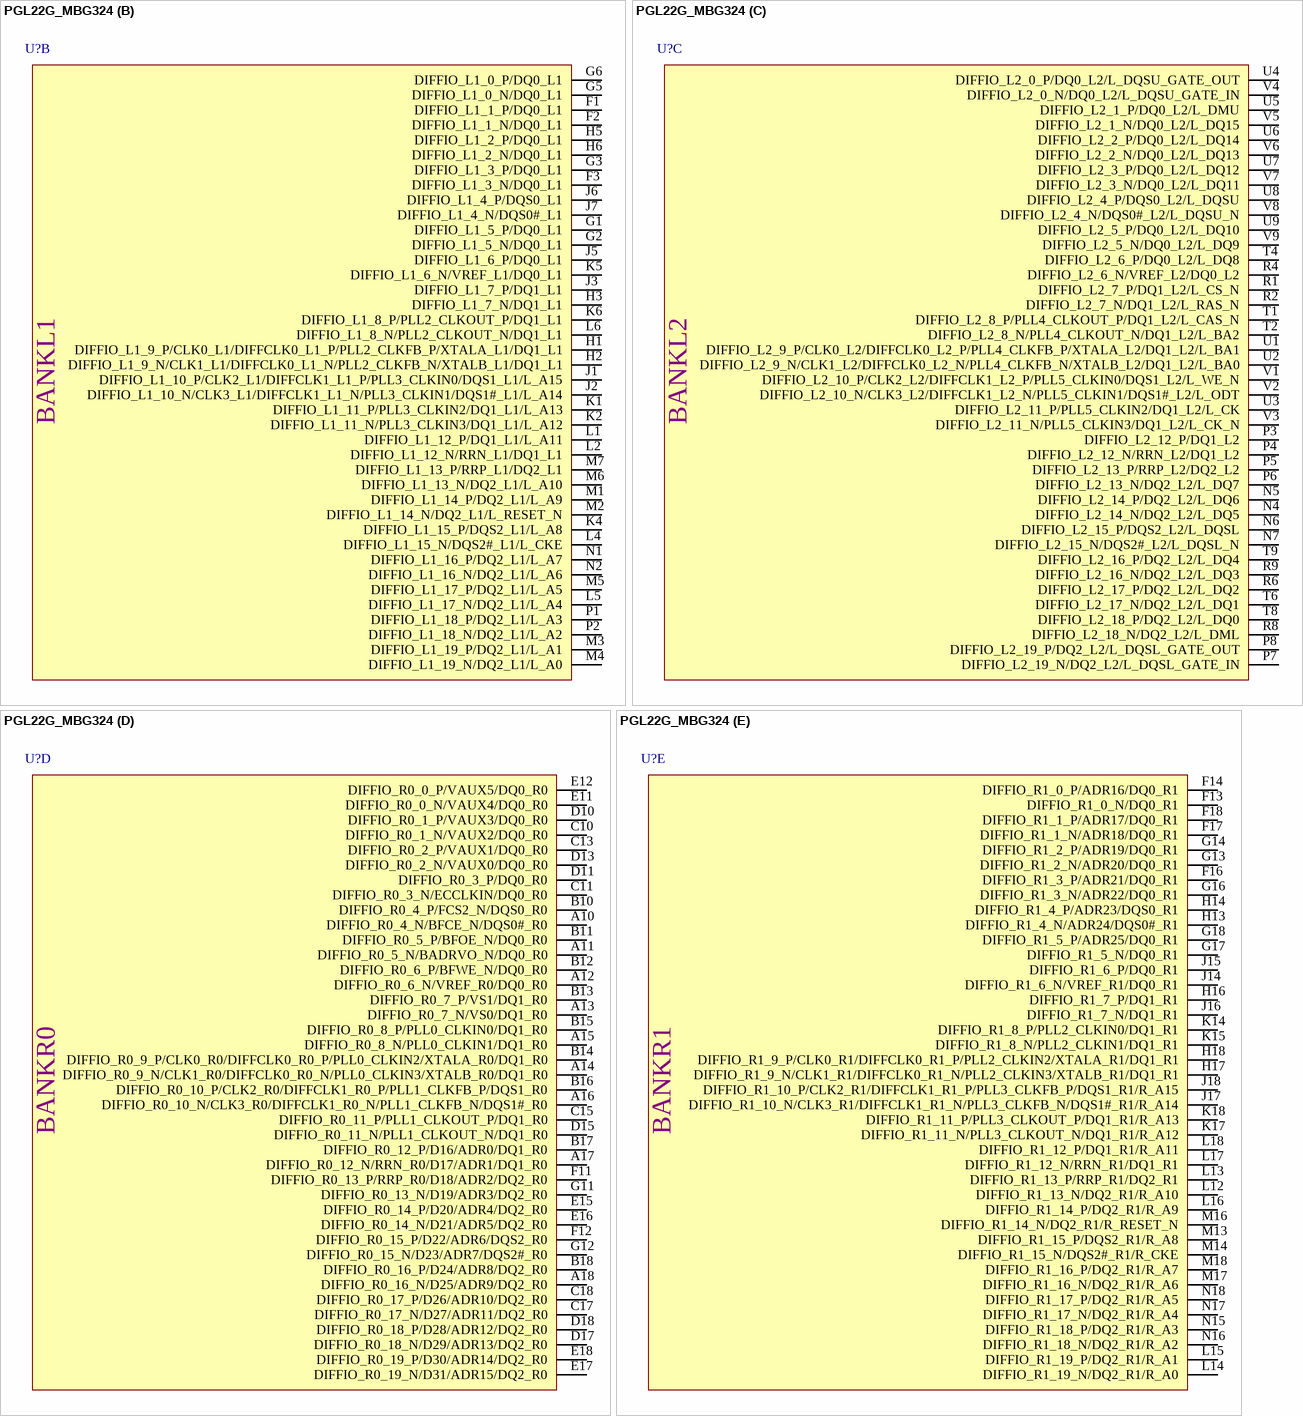
[diagram p7: symbol PGL22G_MBG324]

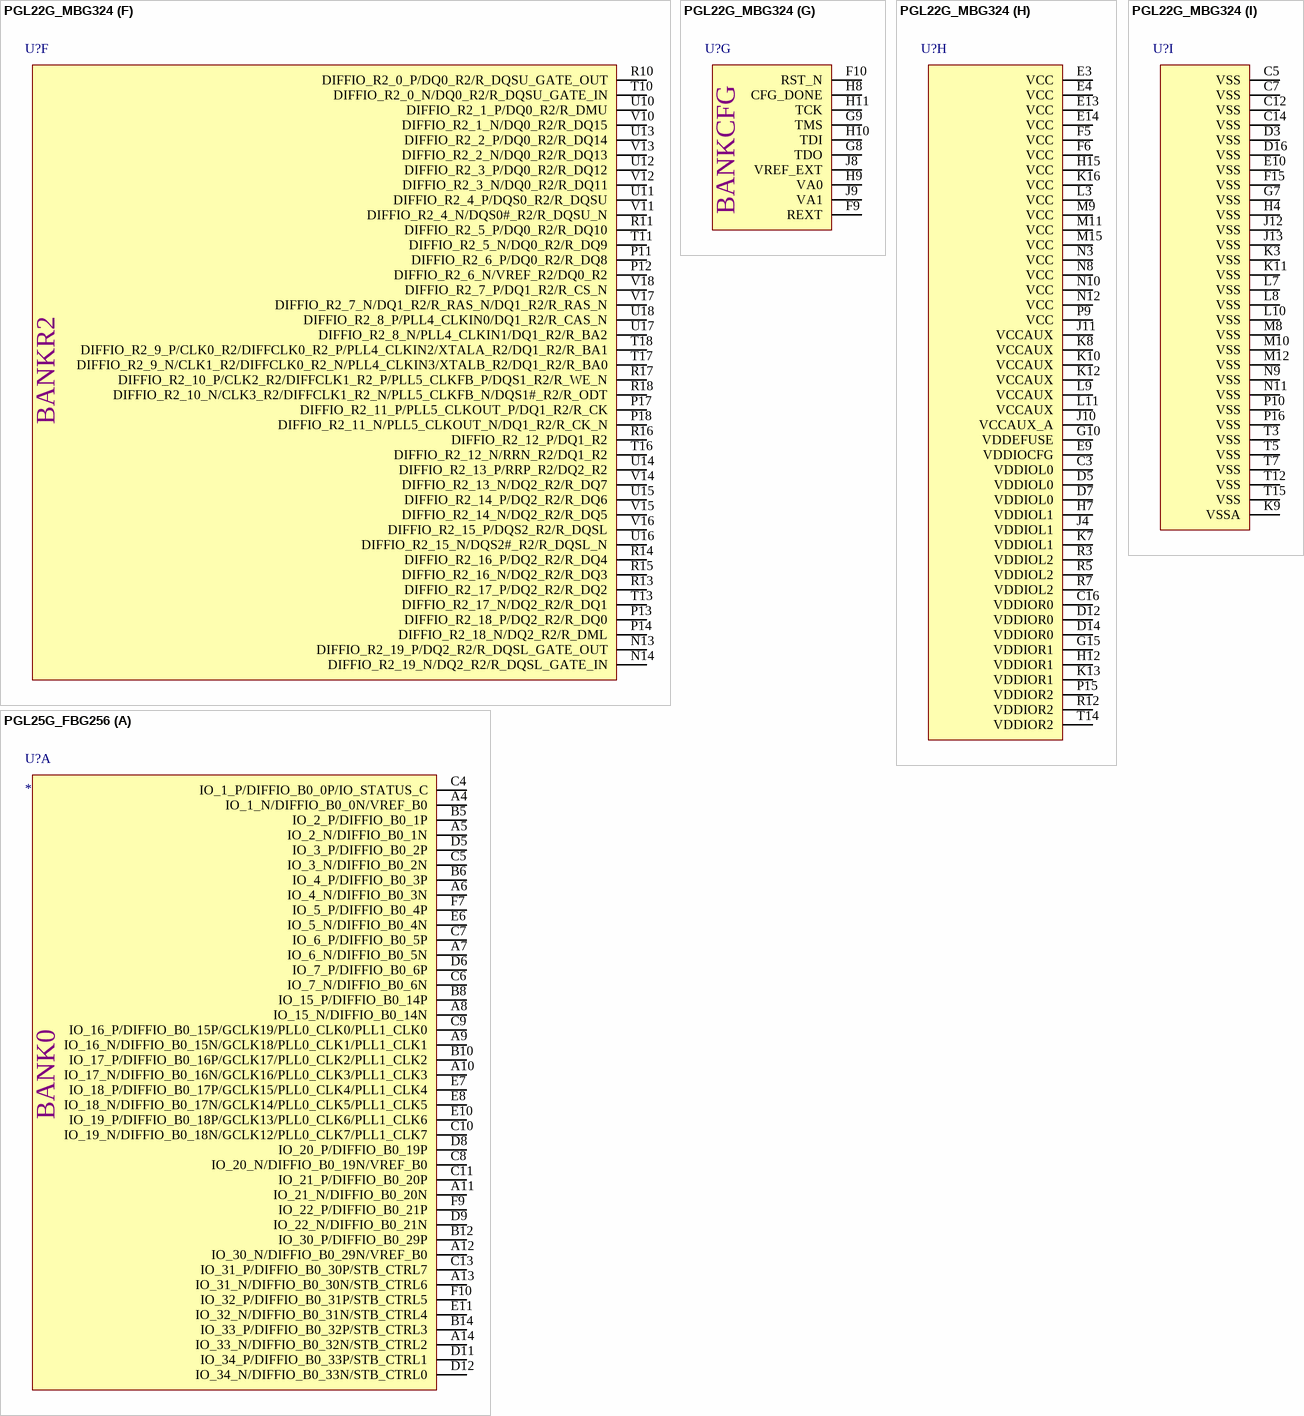
[diagram p8: symbols PGL22G_MBG324 to PGL25G_FBG256]

## PGL22G_MBG324
designator U?  (value not drawn)
footprint BGA15x15-324 (Footprint not found)
part A pins: A1 DIFFIO_L0_15_N/D7/DQS2#_L0, A2 DIFFIO_L0_14_N/D5/DQ2_L0, A3 DIFFIO_L0_13_N/D3/DQ2_L0, A4 DIFFIO_L0_12_N/RRN_L0/D1/DQ1_L0, A5 DIFFIO_L0_10_N/CLK3_L0/DIFFCLK1_L0_N/PLL1_CLKIN1/DQS1#_L0, A6 DIFFIO_L0_9_N/CLK1_L0/DIFFCLK0_L0_N/PLL0_CLKFB_N/XTALB_L0/DQ1_L0, A7 DIFFIO_L0_7_N/INIT_FLAG_N/DQ1_L0, A8 DIFFIO_L0_4_N/CS_N/DQS0#_L0, A9 DIFFIO_L0_5_N/MODE_1/DQ0_L0, B1 DIFFIO_L0_15_P/D6/DQS2_L0, B2 DIFFIO_L0_14_P/D4/DQ2_L0, B3 DIFFIO_L0_13_P/RRP_L0/D2/DQ2_L0, B4 DIFFIO_L0_12_P/D0/DQ1_L0, B5 DIFFIO_L0_10_P/CLK2_L0/DIFFCLK1_L0_P/PLL1_CLKIN0/DQS1_L0, B6 DIFFIO_L0_9_P/CLK0_L0/DIFFCLK0_L0_P/PLL0_CLKFB_P/XTALA_L0/DQ1_L0, B7 DIFFIO_L0_7_P/RWSEL/DQ1_L0, B8 DIFFIO_L0_4_P/FCS_N/DQS0_L0, B9 DIFFIO_L0_5_P/MODE_0/DQ0_L0, C1 DIFFIO_L0_16_P/D8/DQ2_L0, C2 DIFFIO_L0_16_N/D9/DQ2_L0, C4 DIFFIO_L0_6_P/MODE_2/DQ0_L0, C6 DIFFIO_L0_2_P/VAUX7/DQ0_L0, C8 DIFFIO_L0_1_P/VAUX9/DQ0_L0, C9 DIFFIO_L0_3_N/CFG_CLK/DQ0_L0, D1 DIFFIO_L0_18_P/D12/DQ2_L0, D2 DIFFIO_L0_18_N/D13/DQ2_L0, D4 DIFFIO_L0_6_N/VREF_L0/CSO_DOUT/DQ0_L0, D6 DIFFIO_L0_2_N/VAUX6/DQ0_L0, D8 DIFFIO_L0_1_N/VAUX8/DQ0_L0, D9 DIFFIO_L0_3_P/IO_STATUS_C/DQ0_L0, E1 DIFFIO_L0_19_P/D14/DQ2_L0, E2 DIFFIO_L0_19_N/D15/DQ2_L0, E5 DIFFIO_L0_8_P/PLL0_CLKOUT_P/DQ1_L0, E6 DIFFIO_L0_8_N/PLL0_CLKOUT_N/DQ1_L0, E7 DIFFIO_L0_0_N/DQ0_L0, E8 DIFFIO_L0_0_P/BUSY/DQ0_L0, F4 DIFFIO_L0_17_N/D11/DQ2_L0, F7 DIFFIO_L0_11_P/PLL1_CLKIN2/DQ1_L0, F8 DIFFIO_L0_11_N/PLL1_CLKIN3/DQ1_L0, G4 DIFFIO_L0_17_P/D10/DQ2_L0
part B pins: F1 DIFFIO_L1_1_P/DQ0_L1, F2 DIFFIO_L1_1_N/DQ0_L1, F3 DIFFIO_L1_3_N/DQ0_L1, G1 DIFFIO_L1_5_P/DQ0_L1, G2 DIFFIO_L1_5_N/DQ0_L1, G3 DIFFIO_L1_3_P/DQ0_L1, G5 DIFFIO_L1_0_N/DQ0_L1, G6 DIFFIO_L1_0_P/DQ0_L1, H1 DIFFIO_L1_9_P/CLK0_L1/DIFFCLK0_L1_P/PLL2_CLKFB_P/XTALA_L1/DQ1_L1, H2 DIFFIO_L1_9_N/CLK1_L1/DIFFCLK0_L1_N/PLL2_CLKFB_N/XTALB_L1/DQ1_L1, H3 DIFFIO_L1_7_N/DQ1_L1, H5 DIFFIO_L1_2_P/DQ0_L1, H6 DIFFIO_L1_2_N/DQ0_L1, J1 DIFFIO_L1_10_P/CLK2_L1/DIFFCLK1_L1_P/PLL3_CLKIN0/DQS1_L1/L_A15, J2 DIFFIO_L1_10_N/CLK3_L1/DIFFCLK1_L1_N/PLL3_CLKIN1/DQS1#_L1/L_A14, J3 DIFFIO_L1_7_P/DQ1_L1, J5 DIFFIO_L1_6_P/DQ0_L1, J6 DIFFIO_L1_4_P/DQS0_L1, J7 DIFFIO_L1_4_N/DQS0#_L1, K1 DIFFIO_L1_11_P/PLL3_CLKIN2/DQ1_L1/L_A13, K2 DIFFIO_L1_11_N/PLL3_CLKIN3/DQ1_L1/L_A12, K4 DIFFIO_L1_15_P/DQS2_L1/L_A8, K5 DIFFIO_L1_6_N/VREF_L1/DQ0_L1, K6 DIFFIO_L1_8_P/PLL2_CLKOUT_P/DQ1_L1, L1 DIFFIO_L1_12_P/DQ1_L1/L_A11, L2 DIFFIO_L1_12_N/RRN_L1/DQ1_L1, L4 DIFFIO_L1_15_N/DQS2#_L1/L_CKE, L5 DIFFIO_L1_17_N/DQ2_L1/L_A4, L6 DIFFIO_L1_8_N/PLL2_CLKOUT_N/DQ1_L1, M1 DIFFIO_L1_14_P/DQ2_L1/L_A9, M2 DIFFIO_L1_14_N/DQ2_L1/L_RESET_N, M3 DIFFIO_L1_19_P/DQ2_L1/L_A1, M4 DIFFIO_L1_19_N/DQ2_L1/L_A0, M5 DIFFIO_L1_17_P/DQ2_L1/L_A5, M6 DIFFIO_L1_13_N/DQ2_L1/L_A10, M7 DIFFIO_L1_13_P/RRP_L1/DQ2_L1, N1 DIFFIO_L1_16_P/DQ2_L1/L_A7, N2 DIFFIO_L1_16_N/DQ2_L1/L_A6, P1 DIFFIO_L1_18_P/DQ2_L1/L_A3, P2 DIFFIO_L1_18_N/DQ2_L1/L_A2
part C pins: N4 DIFFIO_L2_14_N/DQ2_L2/L_DQ5, N5 DIFFIO_L2_14_P/DQ2_L2/L_DQ6, N6 DIFFIO_L2_15_P/DQS2_L2/L_DQSL, N7 DIFFIO_L2_15_N/DQS2#_L2/L_DQSL_N, P3 DIFFIO_L2_12_P/DQ1_L2, P4 DIFFIO_L2_12_N/RRN_L2/DQ1_L2, P5 DIFFIO_L2_13_P/RRP_L2/DQ2_L2, P6 DIFFIO_L2_13_N/DQ2_L2/L_DQ7, P7 DIFFIO_L2_19_N/DQ2_L2/L_DQSL_GATE_IN, P8 DIFFIO_L2_19_P/DQ2_L2/L_DQSL_GATE_OUT, R1 DIFFIO_L2_7_P/DQ1_L2/L_CS_N, R2 DIFFIO_L2_7_N/DQ1_L2/L_RAS_N, R4 DIFFIO_L2_6_N/VREF_L2/DQ0_L2, R6 DIFFIO_L2_17_P/DQ2_L2/L_DQ2, R8 DIFFIO_L2_18_N/DQ2_L2/L_DML, R9 DIFFIO_L2_16_N/DQ2_L2/L_DQ3, T1 DIFFIO_L2_8_P/PLL4_CLKOUT_P/DQ1_L2/L_CAS_N, T2 DIFFIO_L2_8_N/PLL4_CLKOUT_N/DQ1_L2/L_BA2, T4 DIFFIO_L2_6_P/DQ0_L2/L_DQ8, T6 DIFFIO_L2_17_N/DQ2_L2/L_DQ1, T8 DIFFIO_L2_18_P/DQ2_L2/L_DQ0, T9 DIFFIO_L2_16_P/DQ2_L2/L_DQ4, U1 DIFFIO_L2_9_P/CLK0_L2/DIFFCLK0_L2_P/PLL4_CLKFB_P/XTALA_L2/DQ1_L2/L_BA1, U2 DIFFIO_L2_9_N/CLK1_L2/DIFFCLK0_L2_N/PLL4_CLKFB_N/XTALB_L2/DQ1_L2/L_BA0, U3 DIFFIO_L2_11_P/PLL5_CLKIN2/DQ1_L2/L_CK, U4 DIFFIO_L2_0_P/DQ0_L2/L_DQSU_GATE_OUT, U5 DIFFIO_L2_1_P/DQ0_L2/L_DMU, U6 DIFFIO_L2_2_P/DQ0_L2/L_DQ14, U7 DIFFIO_L2_3_P/DQ0_L2/L_DQ12, U8 DIFFIO_L2_4_P/DQS0_L2/L_DQSU, U9 DIFFIO_L2_5_P/DQ0_L2/L_DQ10, V1 DIFFIO_L2_10_P/CLK2_L2/DIFFCLK1_L2_P/PLL5_CLKIN0/DQS1_L2/L_WE_N, V2 DIFFIO_L2_10_N/CLK3_L2/DIFFCLK1_L2_N/PLL5_CLKIN1/DQS1#_L2/L_ODT, V3 DIFFIO_L2_11_N/PLL5_CLKIN3/DQ1_L2/L_CK_N, V4 DIFFIO_L2_0_N/DQ0_L2/L_DQSU_GATE_IN, V5 DIFFIO_L2_1_N/DQ0_L2/L_DQ15, V6 DIFFIO_L2_2_N/DQ0_L2/L_DQ13, V7 DIFFIO_L2_3_N/DQ0_L2/L_DQ11, V8 DIFFIO_L2_4_N/DQS0#_L2/L_DQSU_N, V9 DIFFIO_L2_5_N/DQ0_L2/L_DQ9
part D pins: A10 DIFFIO_R0_4_N/BFCE_N/DQS0#_R0, A11 DIFFIO_R0_5_N/BADRVO_N/DQ0_R0, A12 DIFFIO_R0_6_N/VREF_R0/DQ0_R0, A13 DIFFIO_R0_7_N/VS0/DQ1_R0, A14 DIFFIO_R0_9_N/CLK1_R0/DIFFCLK0_R0_N/PLL0_CLKIN3/XTALB_R0/DQ1_R0, A15 DIFFIO_R0_8_N/PLL0_CLKIN1/DQ1_R0, A16 DIFFIO_R0_10_N/CLK3_R0/DIFFCLK1_R0_N/PLL1_CLKFB_N/DQS1#_R0, A17 DIFFIO_R0_12_N/RRN_R0/D17/ADR1/DQ1_R0, A18 DIFFIO_R0_16_N/D25/ADR9/DQ2_R0, B10 DIFFIO_R0_4_P/FCS2_N/DQS0_R0, B11 DIFFIO_R0_5_P/BFOE_N/DQ0_R0, B12 DIFFIO_R0_6_P/BFWE_N/DQ0_R0, B13 DIFFIO_R0_7_P/VS1/DQ1_R0, B14 DIFFIO_R0_9_P/CLK0_R0/DIFFCLK0_R0_P/PLL0_CLKIN2/XTALA_R0/DQ1_R0, B15 DIFFIO_R0_8_P/PLL0_CLKIN0/DQ1_R0, B16 DIFFIO_R0_10_P/CLK2_R0/DIFFCLK1_R0_P/PLL1_CLKFB_P/DQS1_R0, B17 DIFFIO_R0_12_P/D16/ADR0/DQ1_R0, B18 DIFFIO_R0_16_P/D24/ADR8/DQ2_R0, C10 DIFFIO_R0_1_N/VAUX2/DQ0_R0, C11 DIFFIO_R0_3_N/ECCLKIN/DQ0_R0, C13 DIFFIO_R0_2_P/VAUX1/DQ0_R0, C15 DIFFIO_R0_11_P/PLL1_CLKOUT_P/DQ1_R0, C17 DIFFIO_R0_17_N/D27/ADR11/DQ2_R0, C18 DIFFIO_R0_17_P/D26/ADR10/DQ2_R0, D10 DIFFIO_R0_1_P/VAUX3/DQ0_R0, D11 DIFFIO_R0_3_P/DQ0_R0, D13 DIFFIO_R0_2_N/VAUX0/DQ0_R0, D15 DIFFIO_R0_11_N/PLL1_CLKOUT_N/DQ1_R0, D17 DIFFIO_R0_18_N/D29/ADR13/DQ2_R0, D18 DIFFIO_R0_18_P/D28/ADR12/DQ2_R0, E11 DIFFIO_R0_0_N/VAUX4/DQ0_R0, E12 DIFFIO_R0_0_P/VAUX5/DQ0_R0, E15 DIFFIO_R0_14_P/D20/ADR4/DQ2_R0, E16 DIFFIO_R0_14_N/D21/ADR5/DQ2_R0, E17 DIFFIO_R0_19_N/D31/ADR15/DQ2_R0, E18 DIFFIO_R0_19_P/D30/ADR14/DQ2_R0, F11 DIFFIO_R0_13_P/RRP_R0/D18/ADR2/DQ2_R0, F12 DIFFIO_R0_15_P/D22/ADR6/DQS2_R0, G11 DIFFIO_R0_13_N/D19/ADR3/DQ2_R0, G12 DIFFIO_R0_15_N/D23/ADR7/DQS2#_R0
part E pins: F13 DIFFIO_R1_0_N/DQ0_R1, F14 DIFFIO_R1_0_P/ADR16/DQ0_R1, F16 DIFFIO_R1_3_P/ADR21/DQ0_R1, F17 DIFFIO_R1_1_N/ADR18/DQ0_R1, F18 DIFFIO_R1_1_P/ADR17/DQ0_R1, G13 DIFFIO_R1_2_N/ADR20/DQ0_R1, G14 DIFFIO_R1_2_P/ADR19/DQ0_R1, G16 DIFFIO_R1_3_N/ADR22/DQ0_R1, G17 DIFFIO_R1_5_N/DQ0_R1, G18 DIFFIO_R1_5_P/ADR25/DQ0_R1, H13 DIFFIO_R1_4_N/ADR24/DQS0#_R1, H14 DIFFIO_R1_4_P/ADR23/DQS0_R1, H16 DIFFIO_R1_7_P/DQ1_R1, H17 DIFFIO_R1_9_N/CLK1_R1/DIFFCLK0_R1_N/PLL2_CLKIN3/XTALB_R1/DQ1_R1, H18 DIFFIO_R1_9_P/CLK0_R1/DIFFCLK0_R1_P/PLL2_CLKIN2/XTALA_R1/DQ1_R1, J14 DIFFIO_R1_6_N/VREF_R1/DQ0_R1, J15 DIFFIO_R1_6_P/DQ0_R1, J16 DIFFIO_R1_7_N/DQ1_R1, J17 DIFFIO_R1_10_N/CLK3_R1/DIFFCLK1_R1_N/PLL3_CLKFB_N/DQS1#_R1/R_A14, J18 DIFFIO_R1_10_P/CLK2_R1/DIFFCLK1_R1_P/PLL3_CLKFB_P/DQS1_R1/R_A15, K14 DIFFIO_R1_8_P/PLL2_CLKIN0/DQ1_R1, K15 DIFFIO_R1_8_N/PLL2_CLKIN1/DQ1_R1, K17 DIFFIO_R1_11_N/PLL3_CLKOUT_N/DQ1_R1/R_A12, K18 DIFFIO_R1_11_P/PLL3_CLKOUT_P/DQ1_R1/R_A13, L12 DIFFIO_R1_13_N/DQ2_R1/R_A10, L13 DIFFIO_R1_13_P/RRP_R1/DQ2_R1, L14 DIFFIO_R1_19_N/DQ2_R1/R_A0, L15 DIFFIO_R1_19_P/DQ2_R1/R_A1, L16 DIFFIO_R1_14_P/DQ2_R1/R_A9, L17 DIFFIO_R1_12_N/RRN_R1/DQ1_R1, L18 DIFFIO_R1_12_P/DQ1_R1/R_A11, M13 DIFFIO_R1_15_P/DQS2_R1/R_A8, M14 DIFFIO_R1_15_N/DQS2#_R1/R_CKE, M16 DIFFIO_R1_14_N/DQ2_R1/R_RESET_N, M17 DIFFIO_R1_16_N/DQ2_R1/R_A6, M18 DIFFIO_R1_16_P/DQ2_R1/R_A7, N15 DIFFIO_R1_18_P/DQ2_R1/R_A3, N16 DIFFIO_R1_18_N/DQ2_R1/R_A2, N17 DIFFIO_R1_17_N/DQ2_R1/R_A4, N18 DIFFIO_R1_17_P/DQ2_R1/R_A5
part F pins: N13 DIFFIO_R2_19_P/DQ2_R2/R_DQSL_GATE_OUT, N14 DIFFIO_R2_19_N/DQ2_R2/R_DQSL_GATE_IN, P11 DIFFIO_R2_6_P/DQ0_R2/R_DQ8, P12 DIFFIO_R2_6_N/VREF_R2/DQ0_R2, P13 DIFFIO_R2_18_P/DQ2_R2/R_DQ0, P14 DIFFIO_R2_18_N/DQ2_R2/R_DML, P17 DIFFIO_R2_11_P/PLL5_CLKOUT_P/DQ1_R2/R_CK, P18 DIFFIO_R2_11_N/PLL5_CLKOUT_N/DQ1_R2/R_CK_N, R10 DIFFIO_R2_0_P/DQ0_R2/R_DQSU_GATE_OUT, R11 DIFFIO_R2_5_P/DQ0_R2/R_DQ10, R13 DIFFIO_R2_17_P/DQ2_R2/R_DQ2, R14 DIFFIO_R2_16_P/DQ2_R2/R_DQ4, R15 DIFFIO_R2_16_N/DQ2_R2/R_DQ3, R16 DIFFIO_R2_12_P/DQ1_R2, R17 DIFFIO_R2_10_P/CLK2_R2/DIFFCLK1_R2_P/PLL5_CLKFB_P/DQS1_R2/R_WE_N, R18 DIFFIO_R2_10_N/CLK3_R2/DIFFCLK1_R2_N/PLL5_CLKFB_N/DQS1#_R2/R_ODT, T10 DIFFIO_R2_0_N/DQ0_R2/R_DQSU_GATE_IN, T11 DIFFIO_R2_5_N/DQ0_R2/R_DQ9, T13 DIFFIO_R2_17_N/DQ2_R2/R_DQ1, T16 DIFFIO_R2_12_N/RRN_R2/DQ1_R2, T17 DIFFIO_R2_9_N/CLK1_R2/DIFFCLK0_R2_N/PLL4_CLKIN3/XTALB_R2/DQ1_R2/R_BA0, T18 DIFFIO_R2_9_P/CLK0_R2/DIFFCLK0_R2_P/PLL4_CLKIN2/XTALA_R2/DQ1_R2/R_BA1, U10 DIFFIO_R2_1_P/DQ0_R2/R_DMU, U11 DIFFIO_R2_4_P/DQS0_R2/R_DQSU, U12 DIFFIO_R2_3_P/DQ0_R2/R_DQ12, U13 DIFFIO_R2_2_P/DQ0_R2/R_DQ14, U14 DIFFIO_R2_13_P/RRP_R2/DQ2_R2, U15 DIFFIO_R2_14_P/DQ2_R2/R_DQ6, U16 DIFFIO_R2_15_N/DQS2#_R2/R_DQSL_N, U17 DIFFIO_R2_8_N/PLL4_CLKIN1/DQ1_R2/R_BA2, U18 DIFFIO_R2_8_P/PLL4_CLKIN0/DQ1_R2/R_CAS_N, V10 DIFFIO_R2_1_N/DQ0_R2/R_DQ15, V11 DIFFIO_R2_4_N/DQS0#_R2/R_DQSU_N, V12 DIFFIO_R2_3_N/DQ0_R2/R_DQ11, V13 DIFFIO_R2_2_N/DQ0_R2/R_DQ13, V14 DIFFIO_R2_13_N/DQ2_R2/R_DQ7, V15 DIFFIO_R2_14_N/DQ2_R2/R_DQ5, V16 DIFFIO_R2_15_P/DQS2_R2/R_DQSL, V17 DIFFIO_R2_7_N/DQ1_R2/R_RAS_N/DQ1_R2/R_RAS_N, V18 DIFFIO_R2_7_P/DQ1_R2/R_CS_N
part G pins: F9 REXT, F10 RST_N, G8 TDO, G9 TMS, H8 CFG_DONE, H9 VA0, H10 TDI, H11 TCK, J8 VREF_EXT, J9 VA1
part H pins: C3 VDDIOL0, C16 VDDIOR0, D5 VDDIOL0, D7 VDDIOL0, D12 VDDIOR0, D14 VDDIOR0, E3 VCC, E4 VCC, E9 VDDIOCFG, E13 VCC, E14 VCC, F5 VCC, F6 VCC, G10 VDDEFUSE, G15 VDDIOR1, H7 VDDIOL1, H12 VDDIOR1, H15 VCC, J4 VDDIOL1, J10 VCCAUX_A, J11 VCCAUX, K7 VDDIOL1, K8 VCCAUX, K10 VCCAUX, K12 VCCAUX, K13 VDDIOR1, K16 VCC, L3 VCC, L9 VCCAUX, L11 VCCAUX, M9 VCC, M11 VCC, M15 VCC, N3 VCC, N8 VCC, N10 VCC, N12 VCC, P9 VCC, P15 VDDIOR2, R3 VDDIOL2, R5 VDDIOL2, R7 VDDIOL2, R12 VDDIOR2, T14 VDDIOR2
part I pins: C5 VSS, C7 VSS, C12 VSS, C14 VSS, D3 VSS, D16 VSS, E10 VSS, F15 VSS, G7 VSS, H4 VSS, J12 VSS, J13 VSS, K3 VSS, K9 VSSA, K11 VSS, L7 VSS, L8 VSS, L10 VSS, M8 VSS, M10 VSS, M12 VSS, N9 VSS, N11 VSS, P10 VSS, P16 VSS, T3 VSS, T5 VSS, T7 VSS, T12 VSS, T15 VSS
part A text: BANKL0
part B text: BANKL1
part C text: BANKL2
part D text: BANKR0
part E text: BANKR1
part F text: BANKR2
part G text: BANKCFG

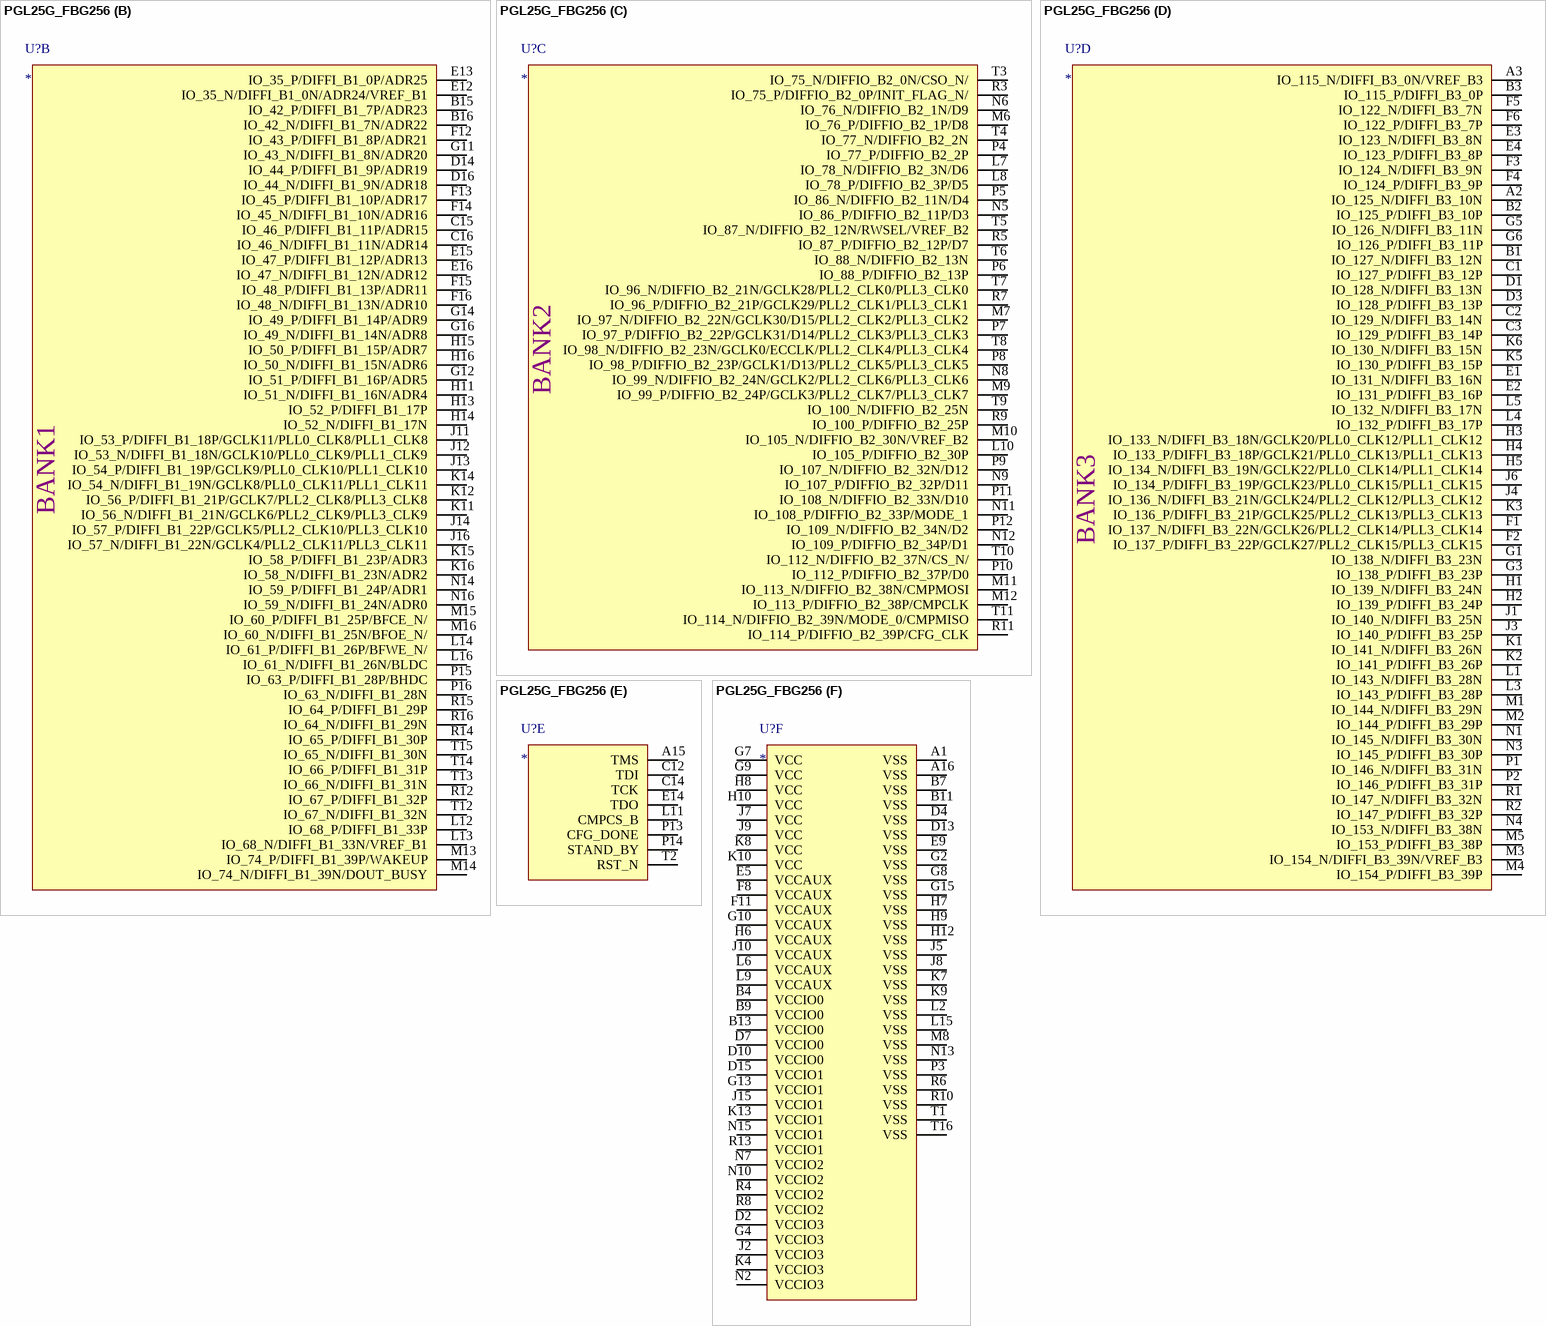
[diagram p9: symbol PGL25G_FBG256]